# Altium integrated library Xilinx XC4000.IntLib: 294 symbols (part 2 of 21)
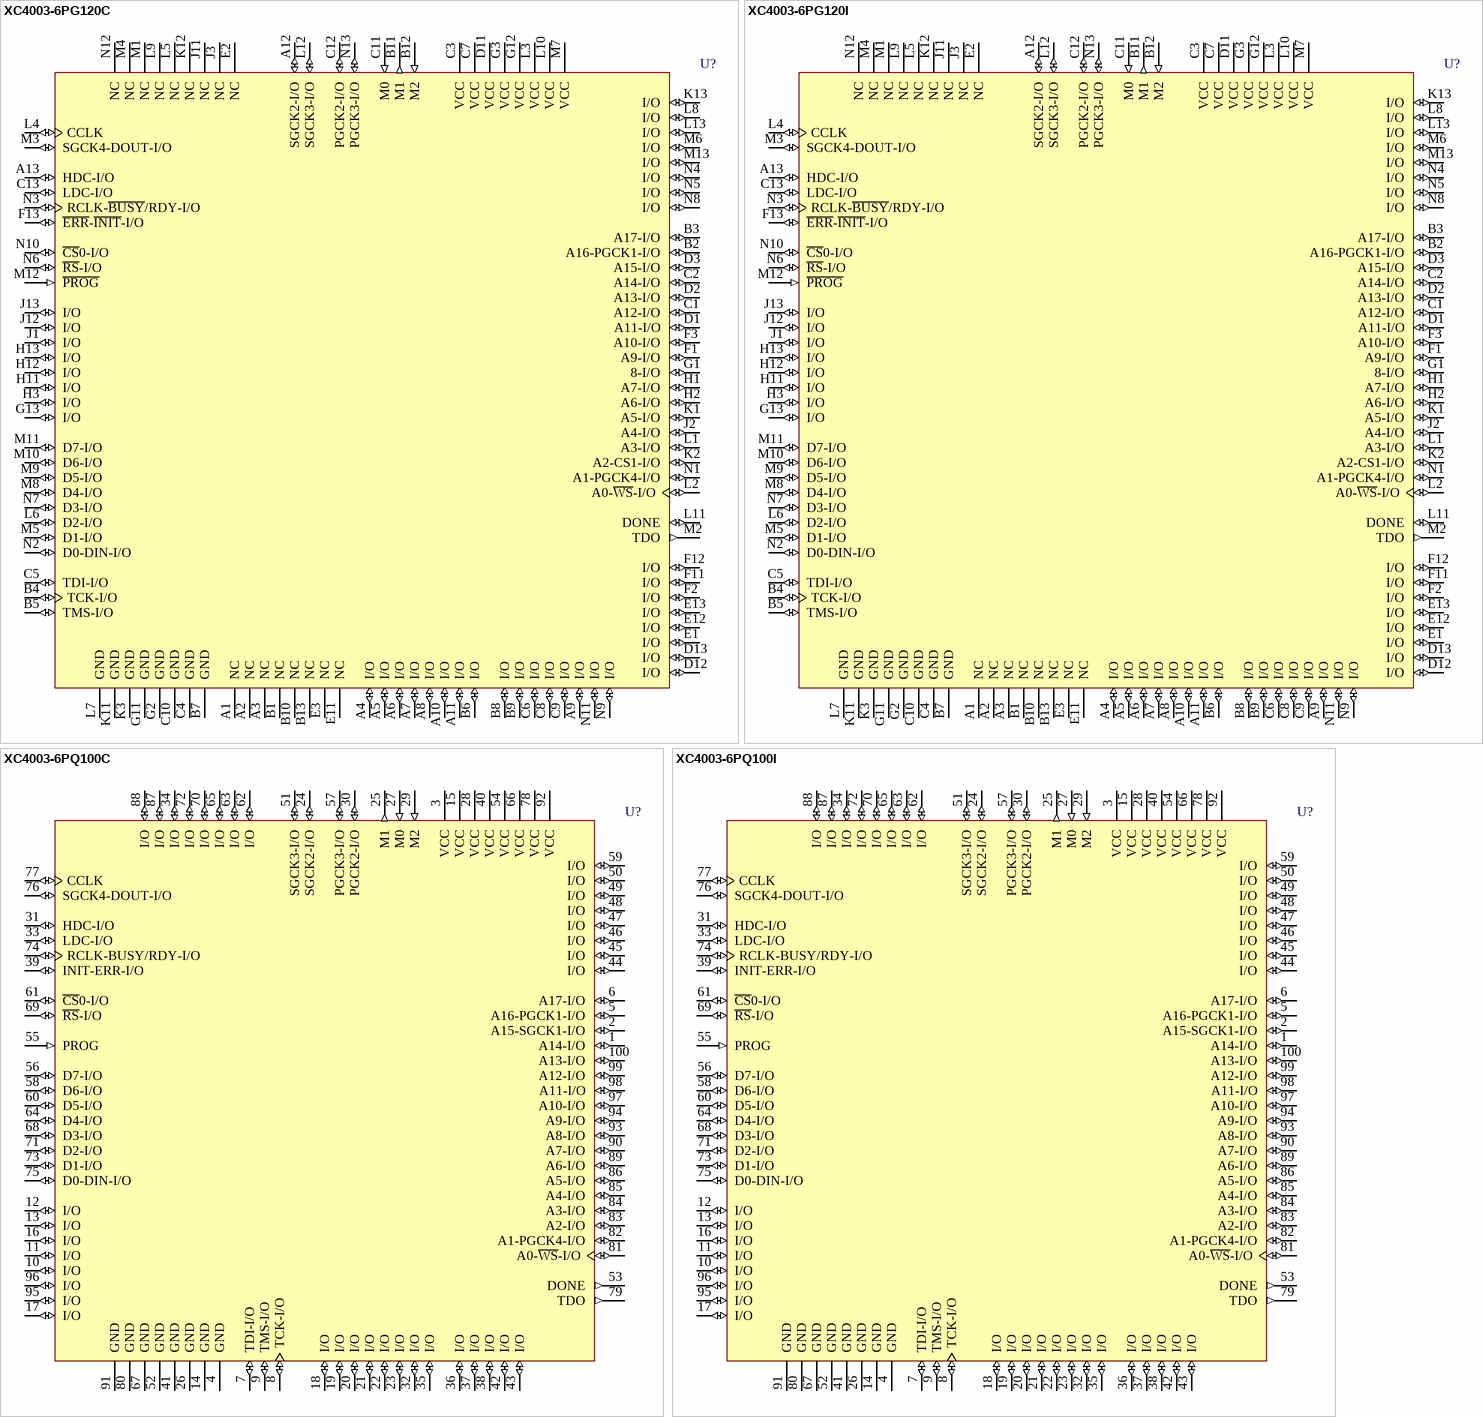
[diagram p230: symbols XC4003-6PG120C to XC4003-6PQ100I]

## XC4003-6PG120C
designator U?
Logic Cell Array, with 80 I/O Pins, 120-Pin PGA, Commercial Grade; ComponentAvailability: Not for New Design; Published: 8-Jun-2000; LatestRevisionDate: 04-Mar-2005; LatestRevisionNote: Stylized 3D Model Added.; DatasheetVersion: 1994; PackageVersion: ver1.1, Apr-2001; PackageReference: PG120; Publisher: Altium Limited; PackageDescription: 120-Pin Ceramic Pin Grid Array (PG120); Code_JEDEC: MO-067-AE; ComponentLink1Description: Manufacturer Link; ComponentLink1URL: http://www.xilinx.com/; ComponentLink2Description: Datasheet; ComponentLink2URL: http://direct.xilinx.com/bvdocs/publications/4000.pdf
footprint PG120 (PGA, 120-Leads, Body 34.5x34.5mm, Pitch 2.54mm)
3D model XC4003-PG120 (120-Pin Ceramic Pin Grid Array (PG120))
pins: A1 NC, A2 NC, A3 NC, A4 I/O (io), A5 I/O (io), A6 I/O (io), A7 I/O (io), A8 I/O (io), A9 I/O (io), A10 I/O (io), A11 I/O (io), A12 SGCK2-I/O (io), A13 HDC-I/O (io), B1 NC, B2 A16-PGCK1-I/O (io), B3 A17-I/O (io), B4 TCK-I/O (io), B5 TMS-I/O (io), B6 I/O (io), B7 GND (power), B8 I/O (io), B9 I/O (io), B10 NC, B11 M1 (out), B12 M2 (in), B13 NC, C1 A12-I/O (io), C2 A14-I/O (io), C3 VCC (power), C4 GND (power), C5 TDI-I/O (io), C6 I/O (io), C7 VCC (power), C8 I/O (io), C9 I/O (io), C10 GND (power), C11 M0 (in), C12 PGCK2-I/O (io), C13 LDC-I/O (io), D1 A11-I/O (io), D2 A13-I/O (io), D3 A15-I/O (io), D11 VCC (power), D12 I/O (io), D13 I/O (io), E1 I/O (io), E2 NC, E3 NC, E11 NC, E12 I/O (io), E13 I/O (io), F1 A9-I/O (io), F2 I/O (io), F3 A10-I/O (io), F11 I/O (io), F12 I/O (io), F13 ~{ERR}-~{INIT}-I/O (io), G1 8-I/O (io), G2 GND (power), G3 VCC (power), G11 GND (power), G12 VCC (power), G13 I/O (io), H1 A7-I/O (io), H2 A6-I/O (io), H3 I/O (io), H11 I/O (io), H12 I/O (io), H13 I/O (io), J1 I/O (io), J2 A4-I/O (io), J3 NC, J11 NC, J12 I/O (io), J13 I/O (io), K1 A5-I/O (io), K2 A2-CS1-I/O (io), K3 GND (power), K11 GND (power), K12 NC, K13 I/O (io), L1 A3-I/O (io), L2 A0-~{WS}-I/O (io), L3 VCC (power), L4 CCLK (io), L5 NC, L6 D2-I/O (io), L7 GND (power), L8 I/O (io), L9 NC, L10 VCC (power), L11 DONE (io), L12 SGCK3-I/O (io), L13 I/O (io), M1 NC, M2 TDO (out), M3 SGCK4-DOUT-I/O (io), M4 NC, M5 D1-I/O (io), M6 I/O (io), M7 VCC (power), M8 D4-I/O (io), M9 D5-I/O (io), M10 D6-I/O (io), M11 D7-I/O (io), M12 ~{PROG} (in), M13 I/O (io), N1 A1-PGCK4-I/O (io), N2 D0-DIN-I/O (io), N3 RCLK-~{BUSY}/RDY-I/O (io), N4 I/O (io), N5 I/O (io), N6 ~{RS}-I/O (io), N7 D3-I/O (io), N8 I/O (io), N9 I/O (io), N10 ~{CS}0-I/O (io), N11 I/O (io), N12 NC, N13 PGCK3-I/O (io)

## XC4003-6PG120I
designator U?
Logic Cell Array, with 80 I/O Pins, 120-Pin PGA, Industrial Grade; ComponentAvailability: Not for New Design; Published: 8-Jun-2000; LatestRevisionDate: 04-Mar-2005; LatestRevisionNote: Stylized 3D Model Added.; DatasheetVersion: 1994; PackageVersion: ver1.1, Apr-2001; PackageReference: PG120; Publisher: Altium Limited; PackageDescription: 120-Pin Ceramic Pin Grid Array (PG120); Code_JEDEC: MO-067-AE; ComponentLink1Description: Manufacturer Link; ComponentLink1URL: http://www.xilinx.com/; ComponentLink2Description: Datasheet; ComponentLink2URL: http://direct.xilinx.com/bvdocs/publications/4000.pdf
footprint PG120 (PGA, 120-Leads, Body 34.5x34.5mm, Pitch 2.54mm)
3D model XC4003-PG120 (120-Pin Ceramic Pin Grid Array (PG120))
pins: A1 NC, A2 NC, A3 NC, A4 I/O (io), A5 I/O (io), A6 I/O (io), A7 I/O (io), A8 I/O (io), A9 I/O (io), A10 I/O (io), A11 I/O (io), A12 SGCK2-I/O (io), A13 HDC-I/O (io), B1 NC, B2 A16-PGCK1-I/O (io), B3 A17-I/O (io), B4 TCK-I/O (io), B5 TMS-I/O (io), B6 I/O (io), B7 GND (power), B8 I/O (io), B9 I/O (io), B10 NC, B11 M1 (out), B12 M2 (in), B13 NC, C1 A12-I/O (io), C2 A14-I/O (io), C3 VCC (power), C4 GND (power), C5 TDI-I/O (io), C6 I/O (io), C7 VCC (power), C8 I/O (io), C9 I/O (io), C10 GND (power), C11 M0 (in), C12 PGCK2-I/O (io), C13 LDC-I/O (io), D1 A11-I/O (io), D2 A13-I/O (io), D3 A15-I/O (io), D11 VCC (power), D12 I/O (io), D13 I/O (io), E1 I/O (io), E2 NC, E3 NC, E11 NC, E12 I/O (io), E13 I/O (io), F1 A9-I/O (io), F2 I/O (io), F3 A10-I/O (io), F11 I/O (io), F12 I/O (io), F13 ~{ERR}-~{INIT}-I/O (io), G1 8-I/O (io), G2 GND (power), G3 VCC (power), G11 GND (power), G12 VCC (power), G13 I/O (io), H1 A7-I/O (io), H2 A6-I/O (io), H3 I/O (io), H11 I/O (io), H12 I/O (io), H13 I/O (io), J1 I/O (io), J2 A4-I/O (io), J3 NC, J11 NC, J12 I/O (io), J13 I/O (io), K1 A5-I/O (io), K2 A2-CS1-I/O (io), K3 GND (power), K11 GND (power), K12 NC, K13 I/O (io), L1 A3-I/O (io), L2 A0-~{WS}-I/O (io), L3 VCC (power), L4 CCLK (io), L5 NC, L6 D2-I/O (io), L7 GND (power), L8 I/O (io), L9 NC, L10 VCC (power), L11 DONE (io), L12 SGCK3-I/O (io), L13 I/O (io), M1 NC, M2 TDO (out), M3 SGCK4-DOUT-I/O (io), M4 NC, M5 D1-I/O (io), M6 I/O (io), M7 VCC (power), M8 D4-I/O (io), M9 D5-I/O (io), M10 D6-I/O (io), M11 D7-I/O (io), M12 ~{PROG} (in), M13 I/O (io), N1 A1-PGCK4-I/O (io), N2 D0-DIN-I/O (io), N3 RCLK-~{BUSY}/RDY-I/O (io), N4 I/O (io), N5 I/O (io), N6 ~{RS}-I/O (io), N7 D3-I/O (io), N8 I/O (io), N9 I/O (io), N10 ~{CS}0-I/O (io), N11 I/O (io), N12 NC, N13 PGCK3-I/O (io)

## XC4003-6PQ100C
designator U?
Logic Cell Array, with 77 I/O Pins, 100-Pin PQFP, Commercial Grade; ComponentAvailability: Not for New Design; Published: 8-Jun-2000; LatestRevisionDate: 13-Apr-2006; LatestRevisionNote: IPC-7351 Footprint Added.; DatasheetVersion: 1994; PackageVersion: ver1.2, Oct-2002; PackageReference: PQ100; Publisher: Altium Limited; PackageDescription: 100-Pin Plastic Quad Flat Pack (PQ100); Code_IPC: QFP65P1720X2320-100; ComponentLink1Description: Manufacturer Link; ComponentLink1URL: http://www.xilinx.com/; ComponentLink2Description: Discontinuation Notice; ComponentLink2URL: http://direct.xilinx.com/bvdocs/notifications/pdn2002-03.pdf
footprint PQ100_N (QFP, 100-Leads, Body 20x14mm, Pitch 0.65mm, IPC Medium Density)
footprint PQ100_L (QFP, 100-Leads, Body 20x14mm, Pitch 0.65mm, IPC High Density)
footprint PQ100_M (QFP, 100-Leads, Body 20x14mm, Pitch 0.65mm, IPC Low Density)
3D model XC4003-PQ100 (100-Pin Plastic Quad Flat Pack (PQ100))
pins: 1 A14-I/O (io), 2 A15-SGCK1-I/O (io), 3 VCC (power), 4 GND (power), 5 A16-PGCK1-I/O (io), 6 A17-I/O (io), 7 TDI-I/O (io), 8 TCK-I/O (io), 9 TMS-I/O (io), 10 I/O (io), 11 I/O (io), 12 I/O (io), 13 I/O (io), 14 GND (power), 15 VCC (power), 16 I/O (io), 17 I/O (io), 18 I/O (io), 19 I/O (io), 20 I/O (io), 21 I/O (io), 22 I/O (io), 23 I/O (io), 24 SGCK2-I/O (io), 25 M1 (out), 26 GND (power), 27 M0 (in), 28 VCC (power), 29 M2 (in), 30 PGCK2-I/O (io), 31 HDC-I/O (io), 32 I/O (io), 33 LDC-I/O (io), 34 I/O (io), 35 I/O (io), 36 I/O (io), 37 I/O (io), 38 I/O (io), 39 INIT-ERR-I/O (io), 40 VCC (power), 41 GND (power), 42 I/O (io), 43 I/O (io), 44 I/O (io), 45 I/O (io), 46 I/O (io), 47 I/O (io), 48 I/O (io), 49 I/O (io), 50 I/O (io), 51 SGCK3-I/O (io), 52 GND (power), 53 DONE (out), 54 VCC (power), 55 PROG (in), 56 D7-I/O (io), 57 PGCK3-I/O (io), 58 D6-I/O (io), 59 I/O (io), 60 D5-I/O (io), 61 ~{CS}0-I/O (io), 62 I/O (io), 63 I/O (io), 64 D4-I/O (io), 65 I/O (io), 66 VCC (power), 67 GND (power), 68 D3-I/O (io), 69 ~{RS}-I/O (io), 70 I/O (io), 71 D2-I/O (io), 72 I/O (io), 73 D1-I/O (io), 74 RCLK-BUSY/RDY-I/O (io), 75 D0-DIN-I/O (io), 76 SGCK4-DOUT-I/O (io), 77 CCLK (io), 78 VCC (power), 79 TDO (out), 80 GND (power), 81 A0-~{WS}-I/O (io), 82 A1-PGCK4-I/O (io), 83 A2-I/O (io), 84 A3-I/O (io), 85 A4-I/O (io), 86 A5-I/O (io), 87 I/O (io), 88 I/O (io), 89 A6-I/O (io), 90 A7-I/O (io), 91 GND (power), 92 VCC (power), 93 A8-I/O (io), 94 A9-I/O (io), 95 I/O (io), 96 I/O (io), 97 A10-I/O (io), 98 A11-I/O (io), 99 A12-I/O (io), 100 A13-I/O (io)

## XC4003-6PQ100I
designator U?
Logic Cell Array, with 77 I/O Pins, 100-Pin PQFP, Industrial Grade; ComponentAvailability: Not for New Design; Published: 8-Jun-2000; LatestRevisionDate: 13-Apr-2006; LatestRevisionNote: IPC-7351 Footprint Added.; DatasheetVersion: 1994; PackageVersion: ver1.2, Oct-2002; PackageReference: PQ100; Publisher: Altium Limited; PackageDescription: 100-Pin Plastic Quad Flat Pack (PQ100); Code_IPC: QFP65P1720X2320-100; ComponentLink1Description: Manufacturer Link; ComponentLink1URL: http://www.xilinx.com/; ComponentLink2Description: Discontinuation Notice; ComponentLink2URL: http://direct.xilinx.com/bvdocs/notifications/pdn2002-03.pdf
footprint PQ100_N (QFP, 100-Leads, Body 20x14mm, Pitch 0.65mm, IPC Medium Density)
footprint PQ100_L (QFP, 100-Leads, Body 20x14mm, Pitch 0.65mm, IPC High Density)
footprint PQ100_M (QFP, 100-Leads, Body 20x14mm, Pitch 0.65mm, IPC Low Density)
3D model XC4003-PQ100 (100-Pin Plastic Quad Flat Pack (PQ100))
pins: 1 A14-I/O (io), 2 A15-SGCK1-I/O (io), 3 VCC (power), 4 GND (power), 5 A16-PGCK1-I/O (io), 6 A17-I/O (io), 7 TDI-I/O (io), 8 TCK-I/O (io), 9 TMS-I/O (io), 10 I/O (io), 11 I/O (io), 12 I/O (io), 13 I/O (io), 14 GND (power), 15 VCC (power), 16 I/O (io), 17 I/O (io), 18 I/O (io), 19 I/O (io), 20 I/O (io), 21 I/O (io), 22 I/O (io), 23 I/O (io), 24 SGCK2-I/O (io), 25 M1 (out), 26 GND (power), 27 M0 (in), 28 VCC (power), 29 M2 (in), 30 PGCK2-I/O (io), 31 HDC-I/O (io), 32 I/O (io), 33 LDC-I/O (io), 34 I/O (io), 35 I/O (io), 36 I/O (io), 37 I/O (io), 38 I/O (io), 39 INIT-ERR-I/O (io), 40 VCC (power), 41 GND (power), 42 I/O (io), 43 I/O (io), 44 I/O (io), 45 I/O (io), 46 I/O (io), 47 I/O (io), 48 I/O (io), 49 I/O (io), 50 I/O (io), 51 SGCK3-I/O (io), 52 GND (power), 53 DONE (out), 54 VCC (power), 55 PROG (in), 56 D7-I/O (io), 57 PGCK3-I/O (io), 58 D6-I/O (io), 59 I/O (io), 60 D5-I/O (io), 61 ~{CS}0-I/O (io), 62 I/O (io), 63 I/O (io), 64 D4-I/O (io), 65 I/O (io), 66 VCC (power), 67 GND (power), 68 D3-I/O (io), 69 ~{RS}-I/O (io), 70 I/O (io), 71 D2-I/O (io), 72 I/O (io), 73 D1-I/O (io), 74 RCLK-BUSY/RDY-I/O (io), 75 D0-DIN-I/O (io), 76 SGCK4-DOUT-I/O (io), 77 CCLK (io), 78 VCC (power), 79 TDO (out), 80 GND (power), 81 A0-~{WS}-I/O (io), 82 A1-PGCK4-I/O (io), 83 A2-I/O (io), 84 A3-I/O (io), 85 A4-I/O (io), 86 A5-I/O (io), 87 I/O (io), 88 I/O (io), 89 A6-I/O (io), 90 A7-I/O (io), 91 GND (power), 92 VCC (power), 93 A8-I/O (io), 94 A9-I/O (io), 95 I/O (io), 96 I/O (io), 97 A10-I/O (io), 98 A11-I/O (io), 99 A12-I/O (io), 100 A13-I/O (io)

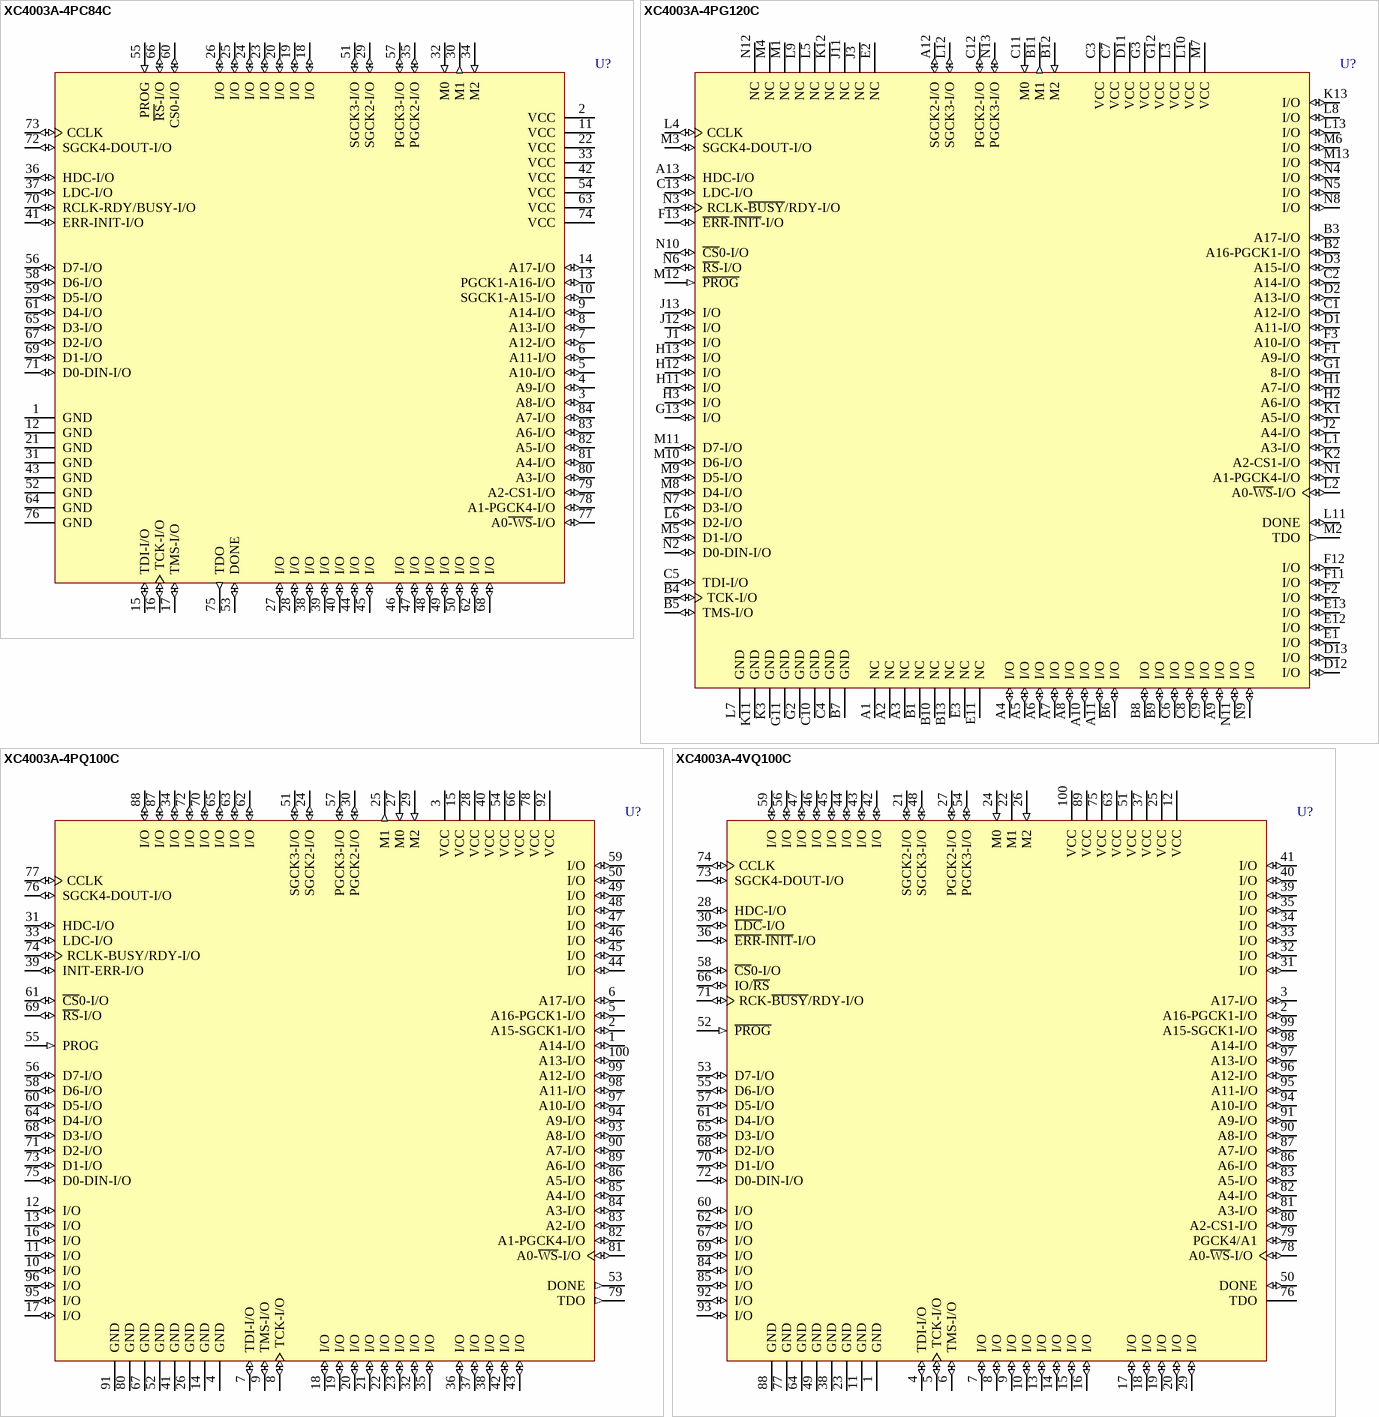
[diagram p6: symbols XC4003A-4PC84C to XC4003A-4VQ100C]

## XC4003A-4PC84C
designator U?
Logic Cell Array, with 61 I/O Pins, 84-Pin PLCC, Commercial Grade; ComponentAvailability: Not for New Design; Published: 8-Jun-2000; LatestRevisionDate: 13-Apr-2006; LatestRevisionNote: IPC-7351 Footprint Added.; DatasheetVersion: 1994; PackageVersion: ver1.2, Jun-2004; PackageReference: PC84; Publisher: Altium Limited; PackageDescription: 84-Pin Plastic Leaded Chip Carrier (PC84); Code_JEDEC: MS-047; Code_IPC: PLCC-84; ComponentLink1Description: Manufacturer Link; ComponentLink1URL: http://www.xilinx.com/; ComponentLink2Description: Datasheet; ComponentLink2URL: http://direct.xilinx.com/bvdocs/publications/4000.pdf
footprint PC84_N (Leaded Chip Carrier, 84-Leads, Body 29.3x29.3mm, Pitch 1.27mm, IPC Medium Density)
footprint PC84_L (Leaded Chip Carrier, 84-Leads, Body 29.3x29.3mm, Pitch 1.27mm, IPC High Density)
footprint PC84_M (Leaded Chip Carrier, 84-Leads, Body 29.3x29.3mm, Pitch 1.27mm, IPC Low Density)
3D model XC4003A-PC84 (84-Pin Plastic Leaded Chip Carrier (PC84))
pins: 1 GND (power), 2 VCC (power), 3 A8-I/O (io), 4 A9-I/O (io), 5 A10-I/O (io), 6 A11-I/O (io), 7 A12-I/O (io), 8 A13-I/O (io), 9 A14-I/O (io), 10 SGCK1-A15-I/O (io), 11 VCC (power), 12 GND (power), 13 PGCK1-A16-I/O (io), 14 A17-I/O (io), 15 TDI-I/O (io), 16 TCK-I/O (io), 17 TMS-I/O (io), 18 I/O (io), 19 I/O (io), 20 I/O (io), 21 GND (power), 22 VCC (power), 23 I/O (io), 24 I/O (io), 25 I/O (io), 26 I/O (io), 27 I/O (io), 28 I/O (io), 29 SGCK2-I/O (io), 30 M1 (out), 31 GND (power), 32 M0 (in), 33 VCC (power), 34 M2 (in), 35 PGCK2-I/O (io), 36 HDC-I/O (io), 37 LDC-I/O (io), 38 I/O (io), 39 I/O (io), 40 I/O (io), 41 ERR-INIT-I/O (io), 42 VCC (power), 43 GND (power), 44 I/O (io), 45 I/O (io), 46 I/O (io), 47 I/O (io), 48 I/O (io), 49 I/O (io), 50 I/O (io), 51 SGCK3-I/O (io), 52 GND (power), 53 DONE (io), 54 VCC (power), 55 PROG (in), 56 D7-I/O (io), 57 PGCK3-I/O (io), 58 D6-I/O (io), 59 D5-I/O (io), 60 CS0-I/O (io), 61 D4-I/O (io), 62 I/O (io), 63 VCC (power), 64 GND (power), 65 D3-I/O (io), 66 ~{RS}-I/O (io), 67 D2-I/O (io), 68 I/O (io), 69 D1-I/O (io), 70 RCLK-RDY/BUSY-I/O (io), 71 D0-DIN-I/O (io), 72 SGCK4-DOUT-I/O (io), 73 CCLK (io), 74 VCC (power), 75 TDO (out), 76 GND (power), 77 A0~{-WS}-I/O (io), 78 A1-PGCK4-I/O (io), 79 A2-CS1-I/O (io), 80 A3-I/O (io), 81 A4-I/O (io), 82 A5-I/O (io), 83 A6-I/O (io), 84 A7-I/O (io)

## XC4003A-4PG120C
designator U?
Logic Cell Array, with 80 I/O Pins, 120-Pin PGA, Commercial Grade; ComponentAvailability: Not for New Design; Published: 8-Jun-2000; LatestRevisionDate: 04-Mar-2005; LatestRevisionNote: Stylized 3D Model Added.; DatasheetVersion: 1994; PackageVersion: ver1.1, Apr-2001; PackageReference: PG120; Publisher: Altium Limited; PackageDescription: 120-Pin Ceramic Pin Grid Array (PG120); Code_JEDEC: MO-067-AE; ComponentLink1Description: Manufacturer Link; ComponentLink1URL: http://www.xilinx.com/; ComponentLink2Description: Datasheet; ComponentLink2URL: http://direct.xilinx.com/bvdocs/publications/4000.pdf
footprint PG120 (PGA, 120-Leads, Body 34.5x34.5mm, Pitch 2.54mm)
3D model XC4003A-PG120 (120-Pin Ceramic Pin Grid Array (PG120))
pins: A1 NC, A2 NC, A3 NC, A4 I/O (io), A5 I/O (io), A6 I/O (io), A7 I/O (io), A8 I/O (io), A9 I/O (io), A10 I/O (io), A11 I/O (io), A12 SGCK2-I/O (io), A13 HDC-I/O (io), B1 NC, B2 A16-PGCK1-I/O (io), B3 A17-I/O (io), B4 TCK-I/O (io), B5 TMS-I/O (io), B6 I/O (io), B7 GND (power), B8 I/O (io), B9 I/O (io), B10 NC, B11 M1 (out), B12 M2 (in), B13 NC, C1 A12-I/O (io), C2 A14-I/O (io), C3 VCC (power), C4 GND (power), C5 TDI-I/O (io), C6 I/O (io), C7 VCC (power), C8 I/O (io), C9 I/O (io), C10 GND (power), C11 M0 (in), C12 PGCK2-I/O (io), C13 LDC-I/O (io), D1 A11-I/O (io), D2 A13-I/O (io), D3 A15-I/O (io), D11 VCC (power), D12 I/O (io), D13 I/O (io), E1 I/O (io), E2 NC, E3 NC, E11 NC, E12 I/O (io), E13 I/O (io), F1 A9-I/O (io), F2 I/O (io), F3 A10-I/O (io), F11 I/O (io), F12 I/O (io), F13 ~{ERR}-~{INIT}-I/O (io), G1 8-I/O (io), G2 GND (power), G3 VCC (power), G11 GND (power), G12 VCC (power), G13 I/O (io), H1 A7-I/O (io), H2 A6-I/O (io), H3 I/O (io), H11 I/O (io), H12 I/O (io), H13 I/O (io), J1 I/O (io), J2 A4-I/O (io), J3 NC, J11 NC, J12 I/O (io), J13 I/O (io), K1 A5-I/O (io), K2 A2-CS1-I/O (io), K3 GND (power), K11 GND (power), K12 NC, K13 I/O (io), L1 A3-I/O (io), L2 A0-~{WS}-I/O (io), L3 VCC (power), L4 CCLK (io), L5 NC, L6 D2-I/O (io), L7 GND (power), L8 I/O (io), L9 NC, L10 VCC (power), L11 DONE (io), L12 SGCK3-I/O (io), L13 I/O (io), M1 NC, M2 TDO (out), M3 SGCK4-DOUT-I/O (io), M4 NC, M5 D1-I/O (io), M6 I/O (io), M7 VCC (power), M8 D4-I/O (io), M9 D5-I/O (io), M10 D6-I/O (io), M11 D7-I/O (io), M12 ~{PROG} (in), M13 I/O (io), N1 A1-PGCK4-I/O (io), N2 D0-DIN-I/O (io), N3 RCLK-~{BUSY}/RDY-I/O (io), N4 I/O (io), N5 I/O (io), N6 ~{RS}-I/O (io), N7 D3-I/O (io), N8 I/O (io), N9 I/O (io), N10 ~{CS}0-I/O (io), N11 I/O (io), N12 NC, N13 PGCK3-I/O (io)

## XC4003A-4PQ100C
designator U?
Logic Cell Array, with 77 I/O Pins, 100-Pin PQFP, Commercial Grade; ComponentAvailability: Not for New Design; Published: 8-Jun-2000; LatestRevisionDate: 13-Apr-2006; LatestRevisionNote: IPC-7351 Footprint Added.; DatasheetVersion: 1994; PackageVersion: ver1.2, Oct-2002; PackageReference: PQ100; Publisher: Altium Limited; PackageDescription: 100-Pin Plastic Quad Flat Pack (PQ100); Code_IPC: QFP65P1720X2320-100; ComponentLink1Description: Manufacturer Link; ComponentLink1URL: http://www.xilinx.com/; ComponentLink2Description: Datasheet; ComponentLink2URL: http://direct.xilinx.com/bvdocs/publications/4000.pdf
footprint PQ100_N (QFP, 100-Leads, Body 20x14mm, Pitch 0.65mm, IPC Medium Density)
footprint PQ100_L (QFP, 100-Leads, Body 20x14mm, Pitch 0.65mm, IPC High Density)
footprint PQ100_M (QFP, 100-Leads, Body 20x14mm, Pitch 0.65mm, IPC Low Density)
3D model XC4003A-PQ100 (100-Pin Plastic Quad Flat Pack (PQ100))
pins: 1 A14-I/O (io), 2 A15-SGCK1-I/O (io), 3 VCC (power), 4 GND (power), 5 A16-PGCK1-I/O (io), 6 A17-I/O (io), 7 TDI-I/O (io), 8 TCK-I/O (io), 9 TMS-I/O (io), 10 I/O (io), 11 I/O (io), 12 I/O (io), 13 I/O (io), 14 GND (power), 15 VCC (power), 16 I/O (io), 17 I/O (io), 18 I/O (io), 19 I/O (io), 20 I/O (io), 21 I/O (io), 22 I/O (io), 23 I/O (io), 24 SGCK2-I/O (io), 25 M1 (out), 26 GND (power), 27 M0 (in), 28 VCC (power), 29 M2 (in), 30 PGCK2-I/O (io), 31 HDC-I/O (io), 32 I/O (io), 33 LDC-I/O (io), 34 I/O (io), 35 I/O (io), 36 I/O (io), 37 I/O (io), 38 I/O (io), 39 INIT-ERR-I/O (io), 40 VCC (power), 41 GND (power), 42 I/O (io), 43 I/O (io), 44 I/O (io), 45 I/O (io), 46 I/O (io), 47 I/O (io), 48 I/O (io), 49 I/O (io), 50 I/O (io), 51 SGCK3-I/O (io), 52 GND (power), 53 DONE (out), 54 VCC (power), 55 PROG (in), 56 D7-I/O (io), 57 PGCK3-I/O (io), 58 D6-I/O (io), 59 I/O (io), 60 D5-I/O (io), 61 ~{CS}0-I/O (io), 62 I/O (io), 63 I/O (io), 64 D4-I/O (io), 65 I/O (io), 66 VCC (power), 67 GND (power), 68 D3-I/O (io), 69 ~{RS}-I/O (io), 70 I/O (io), 71 D2-I/O (io), 72 I/O (io), 73 D1-I/O (io), 74 RCLK-BUSY/RDY-I/O (io), 75 D0-DIN-I/O (io), 76 SGCK4-DOUT-I/O (io), 77 CCLK (io), 78 VCC (power), 79 TDO (out), 80 GND (power), 81 A0-~{WS}-I/O (io), 82 A1-PGCK4-I/O (io), 83 A2-I/O (io), 84 A3-I/O (io), 85 A4-I/O (io), 86 A5-I/O (io), 87 I/O (io), 88 I/O (io), 89 A6-I/O (io), 90 A7-I/O (io), 91 GND (power), 92 VCC (power), 93 A8-I/O (io), 94 A9-I/O (io), 95 I/O (io), 96 I/O (io), 97 A10-I/O (io), 98 A11-I/O (io), 99 A12-I/O (io), 100 A13-I/O (io)

## XC4003A-4VQ100C
designator U?
Logic Cell Array, with 77 I/O Pins, 100-Pin VQFP, Commercial Grade; ComponentAvailability: Not for New Design; Published: 8-Jun-2000; LatestRevisionDate: 13-Apr-2006; LatestRevisionNote: IPC-7351 Footprint Added.; DatasheetVersion: 1994; PackageVersion: ver1.2, Jun-2004; PackageReference: VQ100; Publisher: Altium Limited; PackageDescription: 100-Pin Very Thin Quad Flat Pack (VQ100); Code_JEDEC: MS-026-AED; ComponentLink1Description: Manufacturer Link; ComponentLink1URL: http://www.xilinx.com/; ComponentLink2Description: Datasheet; ComponentLink2URL: http://direct.xilinx.com/bvdocs/publications/4000.pdf
footprint VQ100_N (Thin QFP, 100-Leads, Body 14x14mm, Pitch 0.5mm, IPC Medium Density)
footprint VQ100_L (Thin QFP, 100-Leads, Body 14x14mm, Pitch 0.5mm, IPC High Density)
footprint VQ100_M (Thin QFP, 100-Leads, Body 14x14mm, Pitch 0.5mm, IPC Low Density)
3D model XC4003A-VQ100 (100-Pin Very Thin Quad Flat Pack (VQ100))
pins: 1 GND (power), 2 A16-PGCK1-I/O (io), 3 A17-I/O (io), 4 TDI-I/O (io), 5 TCK-I/O (io), 6 TMS-I/O (io), 7 I/O (io), 8 I/O (io), 9 I/O (io), 10 I/O (io), 11 GND (power), 12 VCC (power), 13 I/O (io), 14 I/O (io), 15 I/O (io), 16 I/O (io), 17 I/O (io), 18 I/O (io), 19 I/O (io), 20 I/O (io), 21 SGCK2-I/O (io), 22 M1 (hiz), 23 GND (power), 24 M0 (in), 25 VCC (power), 26 M2 (in), 27 PGCK2-I/O (io), 28 HDC-I/O (io), 29 I/O (io), 30 ~{LDC}-I/O (io), 31 I/O (io), 32 I/O (io), 33 I/O (io), 34 I/O (io), 35 I/O (io), 36 ~{ERR}-~{INIT}-I/O (io), 37 VCC (power), 38 GND (power), 39 I/O (io), 40 I/O (io), 41 I/O (io), 42 I/O (io), 43 I/O (io), 44 I/O (io), 45 I/O (io), 46 I/O (io), 47 I/O (io), 48 SGCK3-I/O (io), 49 GND (power), 50 DONE (io), 51 VCC (power), 52 ~{PROG} (in), 53 D7-I/O (io), 54 PGCK3-I/O (io), 55 D6-I/O (io), 56 I/O (io), 57 D5-I/O (io), 58 ~{CS}0-I/O (io), 59 I/O (io), 60 I/O (io), 61 D4-I/O (io), 62 I/O (io), 63 VCC (power), 64 GND (power), 65 D3-I/O (io), 66 IO/~{RS} (io), 67 I/O (io), 68 D2-I/O (io), 69 I/O (io), 70 D1-I/O (io), 71 RCK-~{BUSY}/RDY-I/O (io), 72 D0-DIN-I/O (io), 73 SGCK4-DOUT-I/O (io), 74 CCLK (io), 75 VCC (power), 76 TDO (hiz), 77 GND (power), 78 A0-~{WS}-I/O (io), 79 PGCK4/A1 (io), 80 A2-CS1-I/O (io), 81 A3-I/O (io), 82 A4-I/O (io), 83 A5-I/O (io), 84 I/O (io), 85 I/O (io), 86 A6-I/O (io), 87 A7-I/O (io), 88 GND (power), 89 VCC (power), 90 A8-I/O (io), 91 A9-I/O (io), 92 I/O (io), 93 I/O (io), 94 A10-I/O (io), 95 A11-I/O (io), 96 A12-I/O (io), 97 A13-I/O (io), 98 A14-I/O (io), 99 A15-SGCK1-I/O (io), 100 VCC (power)

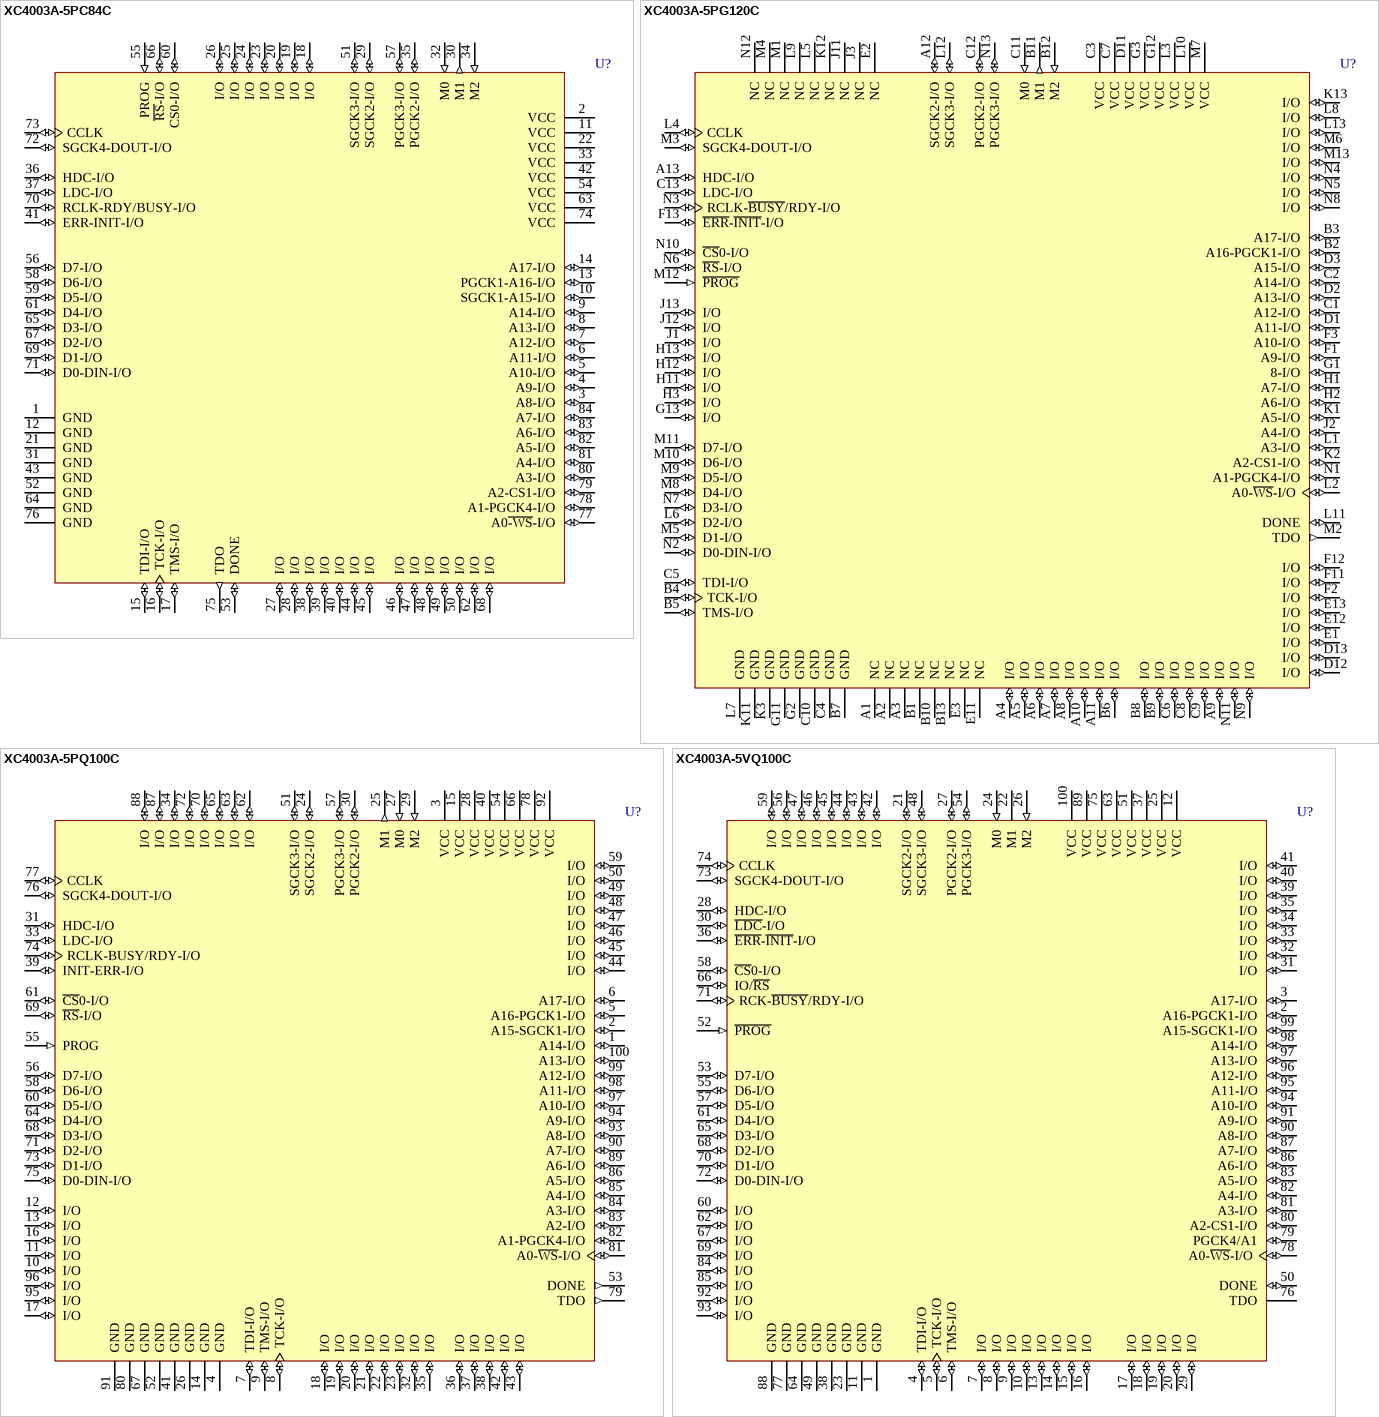
[diagram p7: symbols XC4003A-5PC84C to XC4003A-5VQ100C]

## XC4003A-5PC84C
designator U?
Logic Cell Array, with 61 I/O Pins, 84-Pin PLCC, Commercial Grade; ComponentAvailability: Not for New Design; Published: 8-Jun-2000; LatestRevisionDate: 13-Apr-2006; LatestRevisionNote: IPC-7351 Footprint Added.; DatasheetVersion: 1994; PackageVersion: ver1.2, Jun-2004; PackageReference: PC84; Publisher: Altium Limited; PackageDescription: 84-Pin Plastic Leaded Chip Carrier (PC84); Code_JEDEC: MS-047; Code_IPC: PLCC-84; ComponentLink1Description: Manufacturer Link; ComponentLink1URL: http://www.xilinx.com/; ComponentLink2Description: Datasheet; ComponentLink2URL: http://direct.xilinx.com/bvdocs/publications/4000.pdf
footprint PC84_N (Leaded Chip Carrier, 84-Leads, Body 29.3x29.3mm, Pitch 1.27mm, IPC Medium Density)
footprint PC84_L (Leaded Chip Carrier, 84-Leads, Body 29.3x29.3mm, Pitch 1.27mm, IPC High Density)
footprint PC84_M (Leaded Chip Carrier, 84-Leads, Body 29.3x29.3mm, Pitch 1.27mm, IPC Low Density)
3D model XC4003A-PC84 (84-Pin Plastic Leaded Chip Carrier (PC84))
pins: 1 GND (power), 2 VCC (power), 3 A8-I/O (io), 4 A9-I/O (io), 5 A10-I/O (io), 6 A11-I/O (io), 7 A12-I/O (io), 8 A13-I/O (io), 9 A14-I/O (io), 10 SGCK1-A15-I/O (io), 11 VCC (power), 12 GND (power), 13 PGCK1-A16-I/O (io), 14 A17-I/O (io), 15 TDI-I/O (io), 16 TCK-I/O (io), 17 TMS-I/O (io), 18 I/O (io), 19 I/O (io), 20 I/O (io), 21 GND (power), 22 VCC (power), 23 I/O (io), 24 I/O (io), 25 I/O (io), 26 I/O (io), 27 I/O (io), 28 I/O (io), 29 SGCK2-I/O (io), 30 M1 (out), 31 GND (power), 32 M0 (in), 33 VCC (power), 34 M2 (in), 35 PGCK2-I/O (io), 36 HDC-I/O (io), 37 LDC-I/O (io), 38 I/O (io), 39 I/O (io), 40 I/O (io), 41 ERR-INIT-I/O (io), 42 VCC (power), 43 GND (power), 44 I/O (io), 45 I/O (io), 46 I/O (io), 47 I/O (io), 48 I/O (io), 49 I/O (io), 50 I/O (io), 51 SGCK3-I/O (io), 52 GND (power), 53 DONE (io), 54 VCC (power), 55 PROG (in), 56 D7-I/O (io), 57 PGCK3-I/O (io), 58 D6-I/O (io), 59 D5-I/O (io), 60 CS0-I/O (io), 61 D4-I/O (io), 62 I/O (io), 63 VCC (power), 64 GND (power), 65 D3-I/O (io), 66 ~{RS}-I/O (io), 67 D2-I/O (io), 68 I/O (io), 69 D1-I/O (io), 70 RCLK-RDY/BUSY-I/O (io), 71 D0-DIN-I/O (io), 72 SGCK4-DOUT-I/O (io), 73 CCLK (io), 74 VCC (power), 75 TDO (out), 76 GND (power), 77 A0~{-WS}-I/O (io), 78 A1-PGCK4-I/O (io), 79 A2-CS1-I/O (io), 80 A3-I/O (io), 81 A4-I/O (io), 82 A5-I/O (io), 83 A6-I/O (io), 84 A7-I/O (io)

## XC4003A-5PG120C
designator U?
Logic Cell Array, with 80 I/O Pins, 120-Pin PGA, Commercial Grade; ComponentAvailability: Not for New Design; Published: 8-Jun-2000; LatestRevisionDate: 04-Mar-2005; LatestRevisionNote: Stylized 3D Model Added.; DatasheetVersion: 1994; PackageVersion: ver1.1, Apr-2001; PackageReference: PG120; Publisher: Altium Limited; PackageDescription: 120-Pin Ceramic Pin Grid Array (PG120); Code_JEDEC: MO-067-AE; ComponentLink1Description: Manufacturer Link; ComponentLink1URL: http://www.xilinx.com/; ComponentLink2Description: Datasheet; ComponentLink2URL: http://direct.xilinx.com/bvdocs/publications/4000.pdf
footprint PG120 (PGA, 120-Leads, Body 34.5x34.5mm, Pitch 2.54mm)
3D model XC4003A-PG120 (120-Pin Ceramic Pin Grid Array (PG120))
pins: A1 NC, A2 NC, A3 NC, A4 I/O (io), A5 I/O (io), A6 I/O (io), A7 I/O (io), A8 I/O (io), A9 I/O (io), A10 I/O (io), A11 I/O (io), A12 SGCK2-I/O (io), A13 HDC-I/O (io), B1 NC, B2 A16-PGCK1-I/O (io), B3 A17-I/O (io), B4 TCK-I/O (io), B5 TMS-I/O (io), B6 I/O (io), B7 GND (power), B8 I/O (io), B9 I/O (io), B10 NC, B11 M1 (out), B12 M2 (in), B13 NC, C1 A12-I/O (io), C2 A14-I/O (io), C3 VCC (power), C4 GND (power), C5 TDI-I/O (io), C6 I/O (io), C7 VCC (power), C8 I/O (io), C9 I/O (io), C10 GND (power), C11 M0 (in), C12 PGCK2-I/O (io), C13 LDC-I/O (io), D1 A11-I/O (io), D2 A13-I/O (io), D3 A15-I/O (io), D11 VCC (power), D12 I/O (io), D13 I/O (io), E1 I/O (io), E2 NC, E3 NC, E11 NC, E12 I/O (io), E13 I/O (io), F1 A9-I/O (io), F2 I/O (io), F3 A10-I/O (io), F11 I/O (io), F12 I/O (io), F13 ~{ERR}-~{INIT}-I/O (io), G1 8-I/O (io), G2 GND (power), G3 VCC (power), G11 GND (power), G12 VCC (power), G13 I/O (io), H1 A7-I/O (io), H2 A6-I/O (io), H3 I/O (io), H11 I/O (io), H12 I/O (io), H13 I/O (io), J1 I/O (io), J2 A4-I/O (io), J3 NC, J11 NC, J12 I/O (io), J13 I/O (io), K1 A5-I/O (io), K2 A2-CS1-I/O (io), K3 GND (power), K11 GND (power), K12 NC, K13 I/O (io), L1 A3-I/O (io), L2 A0-~{WS}-I/O (io), L3 VCC (power), L4 CCLK (io), L5 NC, L6 D2-I/O (io), L7 GND (power), L8 I/O (io), L9 NC, L10 VCC (power), L11 DONE (io), L12 SGCK3-I/O (io), L13 I/O (io), M1 NC, M2 TDO (out), M3 SGCK4-DOUT-I/O (io), M4 NC, M5 D1-I/O (io), M6 I/O (io), M7 VCC (power), M8 D4-I/O (io), M9 D5-I/O (io), M10 D6-I/O (io), M11 D7-I/O (io), M12 ~{PROG} (in), M13 I/O (io), N1 A1-PGCK4-I/O (io), N2 D0-DIN-I/O (io), N3 RCLK-~{BUSY}/RDY-I/O (io), N4 I/O (io), N5 I/O (io), N6 ~{RS}-I/O (io), N7 D3-I/O (io), N8 I/O (io), N9 I/O (io), N10 ~{CS}0-I/O (io), N11 I/O (io), N12 NC, N13 PGCK3-I/O (io)

## XC4003A-5PQ100C
designator U?
Logic Cell Array, with 77 I/O Pins, 100-Pin PQFP, Commercial Grade; ComponentAvailability: Not for New Design; Published: 8-Jun-2000; LatestRevisionDate: 13-Apr-2006; LatestRevisionNote: IPC-7351 Footprint Added.; DatasheetVersion: 1994; PackageVersion: ver1.2, Oct-2002; PackageReference: PQ100; Publisher: Altium Limited; PackageDescription: 100-Pin Plastic Quad Flat Pack (PQ100); Code_IPC: QFP65P1720X2320-100; ComponentLink1Description: Manufacturer Link; ComponentLink1URL: http://www.xilinx.com/; ComponentLink2Description: Datasheet; ComponentLink2URL: http://direct.xilinx.com/bvdocs/publications/4000.pdf
footprint PQ100_N (QFP, 100-Leads, Body 20x14mm, Pitch 0.65mm, IPC Medium Density)
footprint PQ100_L (QFP, 100-Leads, Body 20x14mm, Pitch 0.65mm, IPC High Density)
footprint PQ100_M (QFP, 100-Leads, Body 20x14mm, Pitch 0.65mm, IPC Low Density)
3D model XC4003A-PQ100 (100-Pin Plastic Quad Flat Pack (PQ100))
pins: 1 A14-I/O (io), 2 A15-SGCK1-I/O (io), 3 VCC (power), 4 GND (power), 5 A16-PGCK1-I/O (io), 6 A17-I/O (io), 7 TDI-I/O (io), 8 TCK-I/O (io), 9 TMS-I/O (io), 10 I/O (io), 11 I/O (io), 12 I/O (io), 13 I/O (io), 14 GND (power), 15 VCC (power), 16 I/O (io), 17 I/O (io), 18 I/O (io), 19 I/O (io), 20 I/O (io), 21 I/O (io), 22 I/O (io), 23 I/O (io), 24 SGCK2-I/O (io), 25 M1 (out), 26 GND (power), 27 M0 (in), 28 VCC (power), 29 M2 (in), 30 PGCK2-I/O (io), 31 HDC-I/O (io), 32 I/O (io), 33 LDC-I/O (io), 34 I/O (io), 35 I/O (io), 36 I/O (io), 37 I/O (io), 38 I/O (io), 39 INIT-ERR-I/O (io), 40 VCC (power), 41 GND (power), 42 I/O (io), 43 I/O (io), 44 I/O (io), 45 I/O (io), 46 I/O (io), 47 I/O (io), 48 I/O (io), 49 I/O (io), 50 I/O (io), 51 SGCK3-I/O (io), 52 GND (power), 53 DONE (out), 54 VCC (power), 55 PROG (in), 56 D7-I/O (io), 57 PGCK3-I/O (io), 58 D6-I/O (io), 59 I/O (io), 60 D5-I/O (io), 61 ~{CS}0-I/O (io), 62 I/O (io), 63 I/O (io), 64 D4-I/O (io), 65 I/O (io), 66 VCC (power), 67 GND (power), 68 D3-I/O (io), 69 ~{RS}-I/O (io), 70 I/O (io), 71 D2-I/O (io), 72 I/O (io), 73 D1-I/O (io), 74 RCLK-BUSY/RDY-I/O (io), 75 D0-DIN-I/O (io), 76 SGCK4-DOUT-I/O (io), 77 CCLK (io), 78 VCC (power), 79 TDO (out), 80 GND (power), 81 A0-~{WS}-I/O (io), 82 A1-PGCK4-I/O (io), 83 A2-I/O (io), 84 A3-I/O (io), 85 A4-I/O (io), 86 A5-I/O (io), 87 I/O (io), 88 I/O (io), 89 A6-I/O (io), 90 A7-I/O (io), 91 GND (power), 92 VCC (power), 93 A8-I/O (io), 94 A9-I/O (io), 95 I/O (io), 96 I/O (io), 97 A10-I/O (io), 98 A11-I/O (io), 99 A12-I/O (io), 100 A13-I/O (io)

## XC4003A-5VQ100C
designator U?
Logic Cell Array, with 77 I/O Pins, 100-Pin VQFP, Commercial Grade; ComponentAvailability: Not for New Design; Published: 8-Jun-2000; LatestRevisionDate: 13-Apr-2006; LatestRevisionNote: IPC-7351 Footprint Added.; DatasheetVersion: 1994; PackageVersion: ver1.2, Jun-2004; PackageReference: VQ100; Publisher: Altium Limited; PackageDescription: 100-Pin Very Thin Quad Flat Pack (VQ100); Code_JEDEC: MS-026-AED; ComponentLink1Description: Manufacturer Link; ComponentLink1URL: http://www.xilinx.com/; ComponentLink2Description: Datasheet; ComponentLink2URL: http://direct.xilinx.com/bvdocs/publications/4000.pdf
footprint VQ100_N (Thin QFP, 100-Leads, Body 14x14mm, Pitch 0.5mm, IPC Medium Density)
footprint VQ100_L (Thin QFP, 100-Leads, Body 14x14mm, Pitch 0.5mm, IPC High Density)
footprint VQ100_M (Thin QFP, 100-Leads, Body 14x14mm, Pitch 0.5mm, IPC Low Density)
3D model XC4003A-VQ100 (100-Pin Very Thin Quad Flat Pack (VQ100))
pins: 1 GND (power), 2 A16-PGCK1-I/O (io), 3 A17-I/O (io), 4 TDI-I/O (io), 5 TCK-I/O (io), 6 TMS-I/O (io), 7 I/O (io), 8 I/O (io), 9 I/O (io), 10 I/O (io), 11 GND (power), 12 VCC (power), 13 I/O (io), 14 I/O (io), 15 I/O (io), 16 I/O (io), 17 I/O (io), 18 I/O (io), 19 I/O (io), 20 I/O (io), 21 SGCK2-I/O (io), 22 M1 (hiz), 23 GND (power), 24 M0 (in), 25 VCC (power), 26 M2 (in), 27 PGCK2-I/O (io), 28 HDC-I/O (io), 29 I/O (io), 30 ~{LDC}-I/O (io), 31 I/O (io), 32 I/O (io), 33 I/O (io), 34 I/O (io), 35 I/O (io), 36 ~{ERR}-~{INIT}-I/O (io), 37 VCC (power), 38 GND (power), 39 I/O (io), 40 I/O (io), 41 I/O (io), 42 I/O (io), 43 I/O (io), 44 I/O (io), 45 I/O (io), 46 I/O (io), 47 I/O (io), 48 SGCK3-I/O (io), 49 GND (power), 50 DONE (io), 51 VCC (power), 52 ~{PROG} (in), 53 D7-I/O (io), 54 PGCK3-I/O (io), 55 D6-I/O (io), 56 I/O (io), 57 D5-I/O (io), 58 ~{CS}0-I/O (io), 59 I/O (io), 60 I/O (io), 61 D4-I/O (io), 62 I/O (io), 63 VCC (power), 64 GND (power), 65 D3-I/O (io), 66 IO/~{RS} (io), 67 I/O (io), 68 D2-I/O (io), 69 I/O (io), 70 D1-I/O (io), 71 RCK-~{BUSY}/RDY-I/O (io), 72 D0-DIN-I/O (io), 73 SGCK4-DOUT-I/O (io), 74 CCLK (io), 75 VCC (power), 76 TDO (hiz), 77 GND (power), 78 A0-~{WS}-I/O (io), 79 PGCK4/A1 (io), 80 A2-CS1-I/O (io), 81 A3-I/O (io), 82 A4-I/O (io), 83 A5-I/O (io), 84 I/O (io), 85 I/O (io), 86 A6-I/O (io), 87 A7-I/O (io), 88 GND (power), 89 VCC (power), 90 A8-I/O (io), 91 A9-I/O (io), 92 I/O (io), 93 I/O (io), 94 A10-I/O (io), 95 A11-I/O (io), 96 A12-I/O (io), 97 A13-I/O (io), 98 A14-I/O (io), 99 A15-SGCK1-I/O (io), 100 VCC (power)

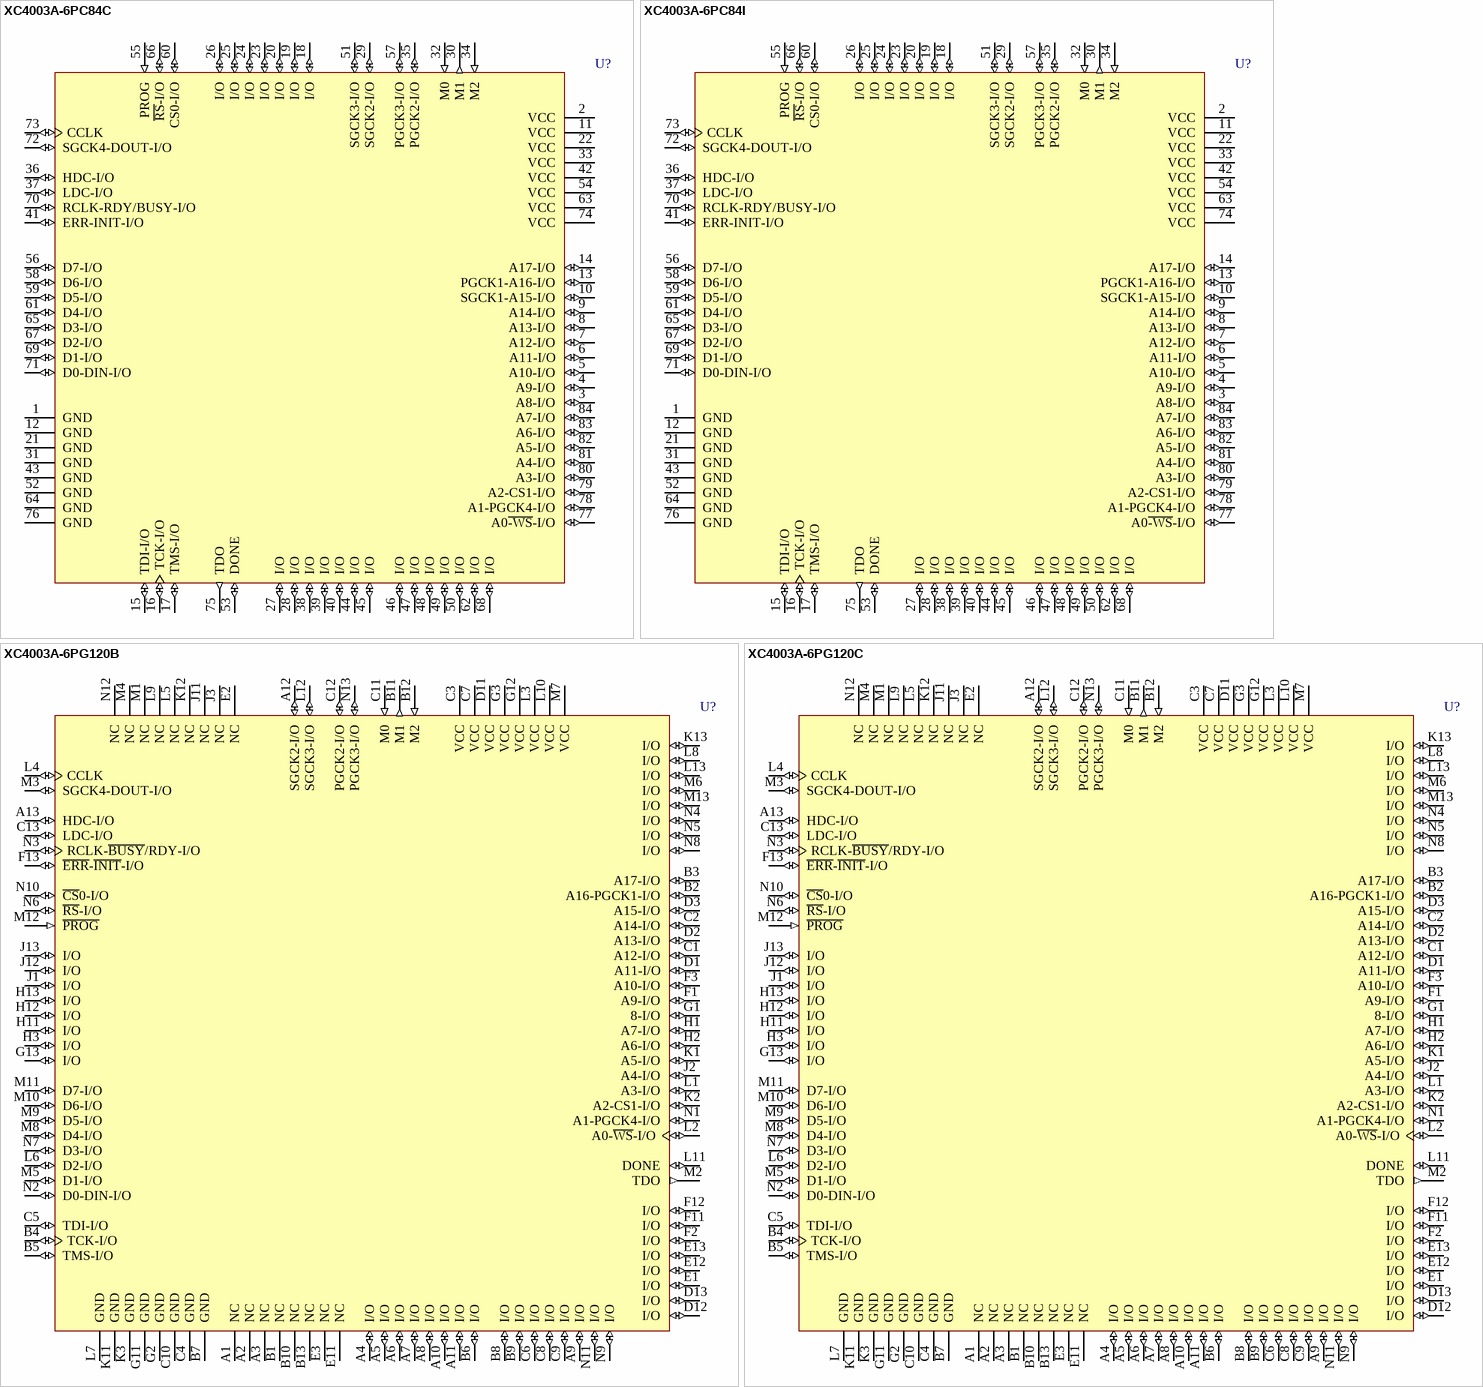
[diagram p8: symbols XC4003A-6PC84C to XC4003A-6PG120C]

## XC4003A-6PC84C
designator U?
Logic Cell Array, with 61 I/O Pins, 84-Pin PLCC, Commercial Grade; ComponentAvailability: Not for New Design; Published: 8-Jun-2000; LatestRevisionDate: 13-Apr-2006; LatestRevisionNote: IPC-7351 Footprint Added.; DatasheetVersion: 1994; PackageVersion: ver1.2, Jun-2004; PackageReference: PC84; Publisher: Altium Limited; PackageDescription: 84-Pin Plastic Leaded Chip Carrier (PC84); Code_JEDEC: MS-047; Code_IPC: PLCC-84; ComponentLink1Description: Manufacturer Link; ComponentLink1URL: http://www.xilinx.com/; ComponentLink2Description: Datasheet; ComponentLink2URL: http://direct.xilinx.com/bvdocs/publications/4000.pdf
footprint PC84_N (Leaded Chip Carrier, 84-Leads, Body 29.3x29.3mm, Pitch 1.27mm, IPC Medium Density)
footprint PC84_L (Leaded Chip Carrier, 84-Leads, Body 29.3x29.3mm, Pitch 1.27mm, IPC High Density)
footprint PC84_M (Leaded Chip Carrier, 84-Leads, Body 29.3x29.3mm, Pitch 1.27mm, IPC Low Density)
3D model XC4003A-PC84 (84-Pin Plastic Leaded Chip Carrier (PC84))
pins: 1 GND (power), 2 VCC (power), 3 A8-I/O (io), 4 A9-I/O (io), 5 A10-I/O (io), 6 A11-I/O (io), 7 A12-I/O (io), 8 A13-I/O (io), 9 A14-I/O (io), 10 SGCK1-A15-I/O (io), 11 VCC (power), 12 GND (power), 13 PGCK1-A16-I/O (io), 14 A17-I/O (io), 15 TDI-I/O (io), 16 TCK-I/O (io), 17 TMS-I/O (io), 18 I/O (io), 19 I/O (io), 20 I/O (io), 21 GND (power), 22 VCC (power), 23 I/O (io), 24 I/O (io), 25 I/O (io), 26 I/O (io), 27 I/O (io), 28 I/O (io), 29 SGCK2-I/O (io), 30 M1 (out), 31 GND (power), 32 M0 (in), 33 VCC (power), 34 M2 (in), 35 PGCK2-I/O (io), 36 HDC-I/O (io), 37 LDC-I/O (io), 38 I/O (io), 39 I/O (io), 40 I/O (io), 41 ERR-INIT-I/O (io), 42 VCC (power), 43 GND (power), 44 I/O (io), 45 I/O (io), 46 I/O (io), 47 I/O (io), 48 I/O (io), 49 I/O (io), 50 I/O (io), 51 SGCK3-I/O (io), 52 GND (power), 53 DONE (io), 54 VCC (power), 55 PROG (in), 56 D7-I/O (io), 57 PGCK3-I/O (io), 58 D6-I/O (io), 59 D5-I/O (io), 60 CS0-I/O (io), 61 D4-I/O (io), 62 I/O (io), 63 VCC (power), 64 GND (power), 65 D3-I/O (io), 66 ~{RS}-I/O (io), 67 D2-I/O (io), 68 I/O (io), 69 D1-I/O (io), 70 RCLK-RDY/BUSY-I/O (io), 71 D0-DIN-I/O (io), 72 SGCK4-DOUT-I/O (io), 73 CCLK (io), 74 VCC (power), 75 TDO (out), 76 GND (power), 77 A0~{-WS}-I/O (io), 78 A1-PGCK4-I/O (io), 79 A2-CS1-I/O (io), 80 A3-I/O (io), 81 A4-I/O (io), 82 A5-I/O (io), 83 A6-I/O (io), 84 A7-I/O (io)

## XC4003A-6PC84I
designator U?
Logic Cell Array, with 61 I/O Pins, 84-Pin PLCC, Industrial Grade; ComponentAvailability: Not for New Design; Published: 8-Jun-2000; LatestRevisionDate: 13-Apr-2006; LatestRevisionNote: IPC-7351 Footprint Added.; DatasheetVersion: 1994; PackageVersion: ver1.2, Jun-2004; PackageReference: PC84; Publisher: Altium Limited; PackageDescription: 84-Pin Plastic Leaded Chip Carrier (PC84); Code_JEDEC: MS-047; Code_IPC: PLCC-84; ComponentLink1Description: Manufacturer Link; ComponentLink1URL: http://www.xilinx.com/; ComponentLink2Description: Datasheet; ComponentLink2URL: http://direct.xilinx.com/bvdocs/publications/4000.pdf
footprint PC84_N (Leaded Chip Carrier, 84-Leads, Body 29.3x29.3mm, Pitch 1.27mm, IPC Medium Density)
footprint PC84_L (Leaded Chip Carrier, 84-Leads, Body 29.3x29.3mm, Pitch 1.27mm, IPC High Density)
footprint PC84_M (Leaded Chip Carrier, 84-Leads, Body 29.3x29.3mm, Pitch 1.27mm, IPC Low Density)
3D model XC4003A-PC84 (84-Pin Plastic Leaded Chip Carrier (PC84))
pins: 1 GND (power), 2 VCC (power), 3 A8-I/O (io), 4 A9-I/O (io), 5 A10-I/O (io), 6 A11-I/O (io), 7 A12-I/O (io), 8 A13-I/O (io), 9 A14-I/O (io), 10 SGCK1-A15-I/O (io), 11 VCC (power), 12 GND (power), 13 PGCK1-A16-I/O (io), 14 A17-I/O (io), 15 TDI-I/O (io), 16 TCK-I/O (io), 17 TMS-I/O (io), 18 I/O (io), 19 I/O (io), 20 I/O (io), 21 GND (power), 22 VCC (power), 23 I/O (io), 24 I/O (io), 25 I/O (io), 26 I/O (io), 27 I/O (io), 28 I/O (io), 29 SGCK2-I/O (io), 30 M1 (out), 31 GND (power), 32 M0 (in), 33 VCC (power), 34 M2 (in), 35 PGCK2-I/O (io), 36 HDC-I/O (io), 37 LDC-I/O (io), 38 I/O (io), 39 I/O (io), 40 I/O (io), 41 ERR-INIT-I/O (io), 42 VCC (power), 43 GND (power), 44 I/O (io), 45 I/O (io), 46 I/O (io), 47 I/O (io), 48 I/O (io), 49 I/O (io), 50 I/O (io), 51 SGCK3-I/O (io), 52 GND (power), 53 DONE (io), 54 VCC (power), 55 PROG (in), 56 D7-I/O (io), 57 PGCK3-I/O (io), 58 D6-I/O (io), 59 D5-I/O (io), 60 CS0-I/O (io), 61 D4-I/O (io), 62 I/O (io), 63 VCC (power), 64 GND (power), 65 D3-I/O (io), 66 ~{RS}-I/O (io), 67 D2-I/O (io), 68 I/O (io), 69 D1-I/O (io), 70 RCLK-RDY/BUSY-I/O (io), 71 D0-DIN-I/O (io), 72 SGCK4-DOUT-I/O (io), 73 CCLK (io), 74 VCC (power), 75 TDO (out), 76 GND (power), 77 A0~{-WS}-I/O (io), 78 A1-PGCK4-I/O (io), 79 A2-CS1-I/O (io), 80 A3-I/O (io), 81 A4-I/O (io), 82 A5-I/O (io), 83 A6-I/O (io), 84 A7-I/O (io)

## XC4003A-6PG120B
designator U?
Logic Cell Array, with 80 I/O Pins, 120-Pin PGA, Military Class B Grade; ComponentAvailability: Not for New Design; Published: 8-Jun-2000; LatestRevisionDate: 04-Mar-2005; LatestRevisionNote: Stylized 3D Model Added.; DatasheetVersion: 1994; PackageVersion: ver1.1, Apr-2001; PackageReference: PG120; Publisher: Altium Limited; PackageDescription: 120-Pin Ceramic Pin Grid Array (PG120); Code_JEDEC: MO-067-AE; ComponentLink1Description: Manufacturer Link; ComponentLink1URL: http://www.xilinx.com/; ComponentLink2Description: Datasheet; ComponentLink2URL: http://direct.xilinx.com/bvdocs/publications/4000.pdf
footprint PG120 (PGA, 120-Leads, Body 34.5x34.5mm, Pitch 2.54mm)
3D model XC4003A-PG120 (120-Pin Ceramic Pin Grid Array (PG120))
pins: A1 NC, A2 NC, A3 NC, A4 I/O (io), A5 I/O (io), A6 I/O (io), A7 I/O (io), A8 I/O (io), A9 I/O (io), A10 I/O (io), A11 I/O (io), A12 SGCK2-I/O (io), A13 HDC-I/O (io), B1 NC, B2 A16-PGCK1-I/O (io), B3 A17-I/O (io), B4 TCK-I/O (io), B5 TMS-I/O (io), B6 I/O (io), B7 GND (power), B8 I/O (io), B9 I/O (io), B10 NC, B11 M1 (out), B12 M2 (in), B13 NC, C1 A12-I/O (io), C2 A14-I/O (io), C3 VCC (power), C4 GND (power), C5 TDI-I/O (io), C6 I/O (io), C7 VCC (power), C8 I/O (io), C9 I/O (io), C10 GND (power), C11 M0 (in), C12 PGCK2-I/O (io), C13 LDC-I/O (io), D1 A11-I/O (io), D2 A13-I/O (io), D3 A15-I/O (io), D11 VCC (power), D12 I/O (io), D13 I/O (io), E1 I/O (io), E2 NC, E3 NC, E11 NC, E12 I/O (io), E13 I/O (io), F1 A9-I/O (io), F2 I/O (io), F3 A10-I/O (io), F11 I/O (io), F12 I/O (io), F13 ~{ERR}-~{INIT}-I/O (io), G1 8-I/O (io), G2 GND (power), G3 VCC (power), G11 GND (power), G12 VCC (power), G13 I/O (io), H1 A7-I/O (io), H2 A6-I/O (io), H3 I/O (io), H11 I/O (io), H12 I/O (io), H13 I/O (io), J1 I/O (io), J2 A4-I/O (io), J3 NC, J11 NC, J12 I/O (io), J13 I/O (io), K1 A5-I/O (io), K2 A2-CS1-I/O (io), K3 GND (power), K11 GND (power), K12 NC, K13 I/O (io), L1 A3-I/O (io), L2 A0-~{WS}-I/O (io), L3 VCC (power), L4 CCLK (io), L5 NC, L6 D2-I/O (io), L7 GND (power), L8 I/O (io), L9 NC, L10 VCC (power), L11 DONE (io), L12 SGCK3-I/O (io), L13 I/O (io), M1 NC, M2 TDO (out), M3 SGCK4-DOUT-I/O (io), M4 NC, M5 D1-I/O (io), M6 I/O (io), M7 VCC (power), M8 D4-I/O (io), M9 D5-I/O (io), M10 D6-I/O (io), M11 D7-I/O (io), M12 ~{PROG} (in), M13 I/O (io), N1 A1-PGCK4-I/O (io), N2 D0-DIN-I/O (io), N3 RCLK-~{BUSY}/RDY-I/O (io), N4 I/O (io), N5 I/O (io), N6 ~{RS}-I/O (io), N7 D3-I/O (io), N8 I/O (io), N9 I/O (io), N10 ~{CS}0-I/O (io), N11 I/O (io), N12 NC, N13 PGCK3-I/O (io)

## XC4003A-6PG120C
designator U?
Logic Cell Array, with 80 I/O Pins, 120-Pin PGA, Commercial Grade; ComponentAvailability: Not for New Design; Published: 8-Jun-2000; LatestRevisionDate: 04-Mar-2005; LatestRevisionNote: Stylized 3D Model Added.; DatasheetVersion: 1994; PackageVersion: ver1.1, Apr-2001; PackageReference: PG120; Publisher: Altium Limited; PackageDescription: 120-Pin Ceramic Pin Grid Array (PG120); Code_JEDEC: MO-067-AE; ComponentLink1Description: Manufacturer Link; ComponentLink1URL: http://www.xilinx.com/; ComponentLink2Description: Datasheet; ComponentLink2URL: http://direct.xilinx.com/bvdocs/publications/4000.pdf
footprint PG120 (PGA, 120-Leads, Body 34.5x34.5mm, Pitch 2.54mm)
3D model XC4003A-PG120 (120-Pin Ceramic Pin Grid Array (PG120))
pins: A1 NC, A2 NC, A3 NC, A4 I/O (io), A5 I/O (io), A6 I/O (io), A7 I/O (io), A8 I/O (io), A9 I/O (io), A10 I/O (io), A11 I/O (io), A12 SGCK2-I/O (io), A13 HDC-I/O (io), B1 NC, B2 A16-PGCK1-I/O (io), B3 A17-I/O (io), B4 TCK-I/O (io), B5 TMS-I/O (io), B6 I/O (io), B7 GND (power), B8 I/O (io), B9 I/O (io), B10 NC, B11 M1 (out), B12 M2 (in), B13 NC, C1 A12-I/O (io), C2 A14-I/O (io), C3 VCC (power), C4 GND (power), C5 TDI-I/O (io), C6 I/O (io), C7 VCC (power), C8 I/O (io), C9 I/O (io), C10 GND (power), C11 M0 (in), C12 PGCK2-I/O (io), C13 LDC-I/O (io), D1 A11-I/O (io), D2 A13-I/O (io), D3 A15-I/O (io), D11 VCC (power), D12 I/O (io), D13 I/O (io), E1 I/O (io), E2 NC, E3 NC, E11 NC, E12 I/O (io), E13 I/O (io), F1 A9-I/O (io), F2 I/O (io), F3 A10-I/O (io), F11 I/O (io), F12 I/O (io), F13 ~{ERR}-~{INIT}-I/O (io), G1 8-I/O (io), G2 GND (power), G3 VCC (power), G11 GND (power), G12 VCC (power), G13 I/O (io), H1 A7-I/O (io), H2 A6-I/O (io), H3 I/O (io), H11 I/O (io), H12 I/O (io), H13 I/O (io), J1 I/O (io), J2 A4-I/O (io), J3 NC, J11 NC, J12 I/O (io), J13 I/O (io), K1 A5-I/O (io), K2 A2-CS1-I/O (io), K3 GND (power), K11 GND (power), K12 NC, K13 I/O (io), L1 A3-I/O (io), L2 A0-~{WS}-I/O (io), L3 VCC (power), L4 CCLK (io), L5 NC, L6 D2-I/O (io), L7 GND (power), L8 I/O (io), L9 NC, L10 VCC (power), L11 DONE (io), L12 SGCK3-I/O (io), L13 I/O (io), M1 NC, M2 TDO (out), M3 SGCK4-DOUT-I/O (io), M4 NC, M5 D1-I/O (io), M6 I/O (io), M7 VCC (power), M8 D4-I/O (io), M9 D5-I/O (io), M10 D6-I/O (io), M11 D7-I/O (io), M12 ~{PROG} (in), M13 I/O (io), N1 A1-PGCK4-I/O (io), N2 D0-DIN-I/O (io), N3 RCLK-~{BUSY}/RDY-I/O (io), N4 I/O (io), N5 I/O (io), N6 ~{RS}-I/O (io), N7 D3-I/O (io), N8 I/O (io), N9 I/O (io), N10 ~{CS}0-I/O (io), N11 I/O (io), N12 NC, N13 PGCK3-I/O (io)

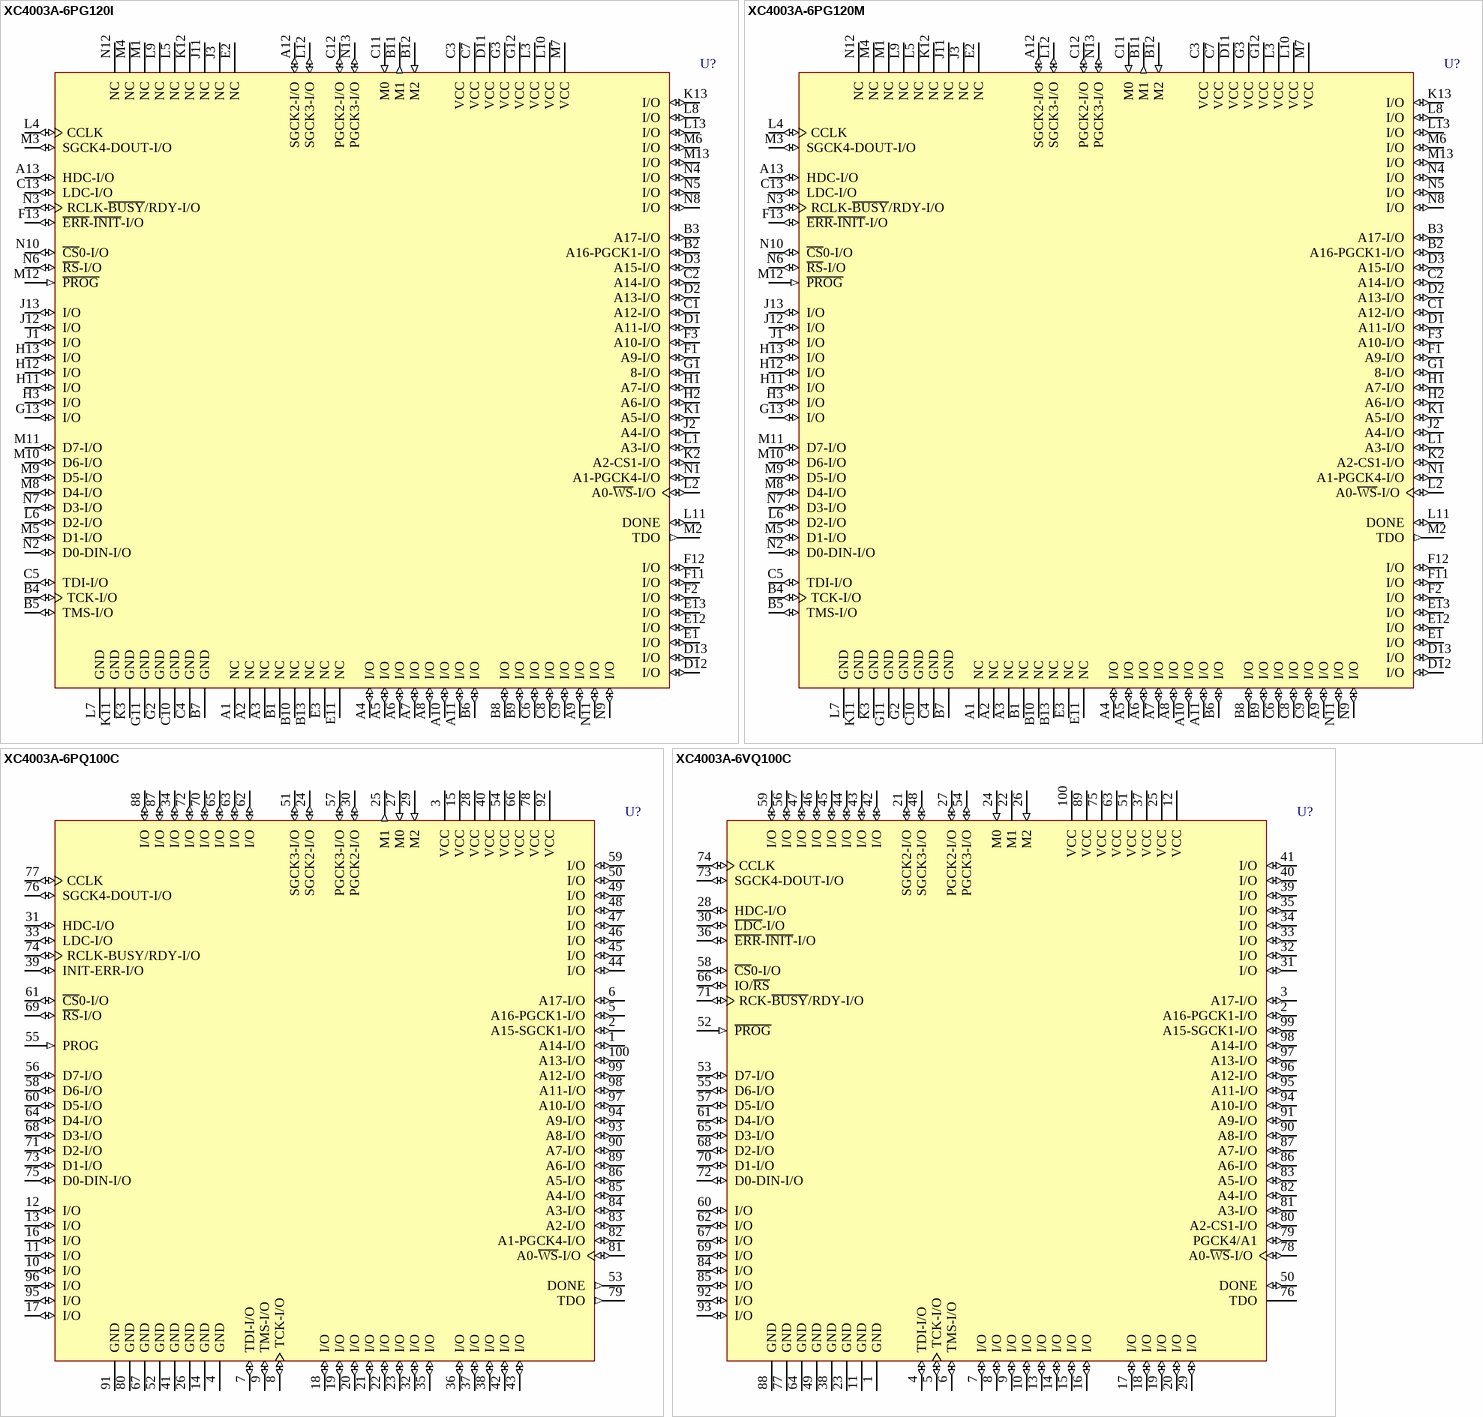
[diagram p9: symbols XC4003A-6PG120I to XC4003A-6VQ100C]

## XC4003A-6PG120I
designator U?
Logic Cell Array, with 80 I/O Pins, 120-Pin PGA, Industrial Grade; ComponentAvailability: Not for New Design; Published: 8-Jun-2000; LatestRevisionDate: 04-Mar-2005; LatestRevisionNote: Stylized 3D Model Added.; DatasheetVersion: 1994; PackageVersion: ver1.1, Apr-2001; PackageReference: PG120; Publisher: Altium Limited; PackageDescription: 120-Pin Ceramic Pin Grid Array (PG120); Code_JEDEC: MO-067-AE; ComponentLink1Description: Manufacturer Link; ComponentLink1URL: http://www.xilinx.com/; ComponentLink2Description: Datasheet; ComponentLink2URL: http://direct.xilinx.com/bvdocs/publications/4000.pdf
footprint PG120 (PGA, 120-Leads, Body 34.5x34.5mm, Pitch 2.54mm)
3D model XC4003A-PG120 (120-Pin Ceramic Pin Grid Array (PG120))
pins: A1 NC, A2 NC, A3 NC, A4 I/O (io), A5 I/O (io), A6 I/O (io), A7 I/O (io), A8 I/O (io), A9 I/O (io), A10 I/O (io), A11 I/O (io), A12 SGCK2-I/O (io), A13 HDC-I/O (io), B1 NC, B2 A16-PGCK1-I/O (io), B3 A17-I/O (io), B4 TCK-I/O (io), B5 TMS-I/O (io), B6 I/O (io), B7 GND (power), B8 I/O (io), B9 I/O (io), B10 NC, B11 M1 (out), B12 M2 (in), B13 NC, C1 A12-I/O (io), C2 A14-I/O (io), C3 VCC (power), C4 GND (power), C5 TDI-I/O (io), C6 I/O (io), C7 VCC (power), C8 I/O (io), C9 I/O (io), C10 GND (power), C11 M0 (in), C12 PGCK2-I/O (io), C13 LDC-I/O (io), D1 A11-I/O (io), D2 A13-I/O (io), D3 A15-I/O (io), D11 VCC (power), D12 I/O (io), D13 I/O (io), E1 I/O (io), E2 NC, E3 NC, E11 NC, E12 I/O (io), E13 I/O (io), F1 A9-I/O (io), F2 I/O (io), F3 A10-I/O (io), F11 I/O (io), F12 I/O (io), F13 ~{ERR}-~{INIT}-I/O (io), G1 8-I/O (io), G2 GND (power), G3 VCC (power), G11 GND (power), G12 VCC (power), G13 I/O (io), H1 A7-I/O (io), H2 A6-I/O (io), H3 I/O (io), H11 I/O (io), H12 I/O (io), H13 I/O (io), J1 I/O (io), J2 A4-I/O (io), J3 NC, J11 NC, J12 I/O (io), J13 I/O (io), K1 A5-I/O (io), K2 A2-CS1-I/O (io), K3 GND (power), K11 GND (power), K12 NC, K13 I/O (io), L1 A3-I/O (io), L2 A0-~{WS}-I/O (io), L3 VCC (power), L4 CCLK (io), L5 NC, L6 D2-I/O (io), L7 GND (power), L8 I/O (io), L9 NC, L10 VCC (power), L11 DONE (io), L12 SGCK3-I/O (io), L13 I/O (io), M1 NC, M2 TDO (out), M3 SGCK4-DOUT-I/O (io), M4 NC, M5 D1-I/O (io), M6 I/O (io), M7 VCC (power), M8 D4-I/O (io), M9 D5-I/O (io), M10 D6-I/O (io), M11 D7-I/O (io), M12 ~{PROG} (in), M13 I/O (io), N1 A1-PGCK4-I/O (io), N2 D0-DIN-I/O (io), N3 RCLK-~{BUSY}/RDY-I/O (io), N4 I/O (io), N5 I/O (io), N6 ~{RS}-I/O (io), N7 D3-I/O (io), N8 I/O (io), N9 I/O (io), N10 ~{CS}0-I/O (io), N11 I/O (io), N12 NC, N13 PGCK3-I/O (io)

## XC4003A-6PG120M
designator U?
Logic Cell Array, with 80 I/O Pins, 120-Pin PGA, Military Grade; ComponentAvailability: Not for New Design; Published: 8-Jun-2000; LatestRevisionDate: 04-Mar-2005; LatestRevisionNote: Stylized 3D Model Added.; DatasheetVersion: 1994; PackageVersion: ver1.1, Apr-2001; PackageReference: PG120; Publisher: Altium Limited; PackageDescription: 120-Pin Ceramic Pin Grid Array (PG120); Code_JEDEC: MO-067-AE; ComponentLink1Description: Manufacturer Link; ComponentLink1URL: http://www.xilinx.com/; ComponentLink2Description: Datasheet; ComponentLink2URL: http://direct.xilinx.com/bvdocs/publications/4000.pdf
footprint PG120 (PGA, 120-Leads, Body 34.5x34.5mm, Pitch 2.54mm)
3D model XC4003A-PG120 (120-Pin Ceramic Pin Grid Array (PG120))
pins: A1 NC, A2 NC, A3 NC, A4 I/O (io), A5 I/O (io), A6 I/O (io), A7 I/O (io), A8 I/O (io), A9 I/O (io), A10 I/O (io), A11 I/O (io), A12 SGCK2-I/O (io), A13 HDC-I/O (io), B1 NC, B2 A16-PGCK1-I/O (io), B3 A17-I/O (io), B4 TCK-I/O (io), B5 TMS-I/O (io), B6 I/O (io), B7 GND (power), B8 I/O (io), B9 I/O (io), B10 NC, B11 M1 (out), B12 M2 (in), B13 NC, C1 A12-I/O (io), C2 A14-I/O (io), C3 VCC (power), C4 GND (power), C5 TDI-I/O (io), C6 I/O (io), C7 VCC (power), C8 I/O (io), C9 I/O (io), C10 GND (power), C11 M0 (in), C12 PGCK2-I/O (io), C13 LDC-I/O (io), D1 A11-I/O (io), D2 A13-I/O (io), D3 A15-I/O (io), D11 VCC (power), D12 I/O (io), D13 I/O (io), E1 I/O (io), E2 NC, E3 NC, E11 NC, E12 I/O (io), E13 I/O (io), F1 A9-I/O (io), F2 I/O (io), F3 A10-I/O (io), F11 I/O (io), F12 I/O (io), F13 ~{ERR}-~{INIT}-I/O (io), G1 8-I/O (io), G2 GND (power), G3 VCC (power), G11 GND (power), G12 VCC (power), G13 I/O (io), H1 A7-I/O (io), H2 A6-I/O (io), H3 I/O (io), H11 I/O (io), H12 I/O (io), H13 I/O (io), J1 I/O (io), J2 A4-I/O (io), J3 NC, J11 NC, J12 I/O (io), J13 I/O (io), K1 A5-I/O (io), K2 A2-CS1-I/O (io), K3 GND (power), K11 GND (power), K12 NC, K13 I/O (io), L1 A3-I/O (io), L2 A0-~{WS}-I/O (io), L3 VCC (power), L4 CCLK (io), L5 NC, L6 D2-I/O (io), L7 GND (power), L8 I/O (io), L9 NC, L10 VCC (power), L11 DONE (io), L12 SGCK3-I/O (io), L13 I/O (io), M1 NC, M2 TDO (out), M3 SGCK4-DOUT-I/O (io), M4 NC, M5 D1-I/O (io), M6 I/O (io), M7 VCC (power), M8 D4-I/O (io), M9 D5-I/O (io), M10 D6-I/O (io), M11 D7-I/O (io), M12 ~{PROG} (in), M13 I/O (io), N1 A1-PGCK4-I/O (io), N2 D0-DIN-I/O (io), N3 RCLK-~{BUSY}/RDY-I/O (io), N4 I/O (io), N5 I/O (io), N6 ~{RS}-I/O (io), N7 D3-I/O (io), N8 I/O (io), N9 I/O (io), N10 ~{CS}0-I/O (io), N11 I/O (io), N12 NC, N13 PGCK3-I/O (io)

## XC4003A-6PQ100C
designator U?
Logic Cell Array, with 77 I/O Pins, 100-Pin PQFP, Commercial Grade; ComponentAvailability: Not for New Design; Published: 8-Jun-2000; LatestRevisionDate: 13-Apr-2006; LatestRevisionNote: IPC-7351 Footprint Added.; DatasheetVersion: 1994; PackageVersion: ver1.2, Oct-2002; PackageReference: PQ100; Publisher: Altium Limited; PackageDescription: 100-Pin Plastic Quad Flat Pack (PQ100); Code_IPC: QFP65P1720X2320-100; ComponentLink1Description: Manufacturer Link; ComponentLink1URL: http://www.xilinx.com/; ComponentLink2Description: Datasheet; ComponentLink2URL: http://direct.xilinx.com/bvdocs/publications/4000.pdf
footprint PQ100_N (QFP, 100-Leads, Body 20x14mm, Pitch 0.65mm, IPC Medium Density)
footprint PQ100_L (QFP, 100-Leads, Body 20x14mm, Pitch 0.65mm, IPC High Density)
footprint PQ100_M (QFP, 100-Leads, Body 20x14mm, Pitch 0.65mm, IPC Low Density)
3D model XC4003A-PQ100 (100-Pin Plastic Quad Flat Pack (PQ100))
pins: 1 A14-I/O (io), 2 A15-SGCK1-I/O (io), 3 VCC (power), 4 GND (power), 5 A16-PGCK1-I/O (io), 6 A17-I/O (io), 7 TDI-I/O (io), 8 TCK-I/O (io), 9 TMS-I/O (io), 10 I/O (io), 11 I/O (io), 12 I/O (io), 13 I/O (io), 14 GND (power), 15 VCC (power), 16 I/O (io), 17 I/O (io), 18 I/O (io), 19 I/O (io), 20 I/O (io), 21 I/O (io), 22 I/O (io), 23 I/O (io), 24 SGCK2-I/O (io), 25 M1 (out), 26 GND (power), 27 M0 (in), 28 VCC (power), 29 M2 (in), 30 PGCK2-I/O (io), 31 HDC-I/O (io), 32 I/O (io), 33 LDC-I/O (io), 34 I/O (io), 35 I/O (io), 36 I/O (io), 37 I/O (io), 38 I/O (io), 39 INIT-ERR-I/O (io), 40 VCC (power), 41 GND (power), 42 I/O (io), 43 I/O (io), 44 I/O (io), 45 I/O (io), 46 I/O (io), 47 I/O (io), 48 I/O (io), 49 I/O (io), 50 I/O (io), 51 SGCK3-I/O (io), 52 GND (power), 53 DONE (out), 54 VCC (power), 55 PROG (in), 56 D7-I/O (io), 57 PGCK3-I/O (io), 58 D6-I/O (io), 59 I/O (io), 60 D5-I/O (io), 61 ~{CS}0-I/O (io), 62 I/O (io), 63 I/O (io), 64 D4-I/O (io), 65 I/O (io), 66 VCC (power), 67 GND (power), 68 D3-I/O (io), 69 ~{RS}-I/O (io), 70 I/O (io), 71 D2-I/O (io), 72 I/O (io), 73 D1-I/O (io), 74 RCLK-BUSY/RDY-I/O (io), 75 D0-DIN-I/O (io), 76 SGCK4-DOUT-I/O (io), 77 CCLK (io), 78 VCC (power), 79 TDO (out), 80 GND (power), 81 A0-~{WS}-I/O (io), 82 A1-PGCK4-I/O (io), 83 A2-I/O (io), 84 A3-I/O (io), 85 A4-I/O (io), 86 A5-I/O (io), 87 I/O (io), 88 I/O (io), 89 A6-I/O (io), 90 A7-I/O (io), 91 GND (power), 92 VCC (power), 93 A8-I/O (io), 94 A9-I/O (io), 95 I/O (io), 96 I/O (io), 97 A10-I/O (io), 98 A11-I/O (io), 99 A12-I/O (io), 100 A13-I/O (io)